# Altium integrated library Renesas Microprocessor SuperH.IntLib: 433 symbols (part 31 of 62)
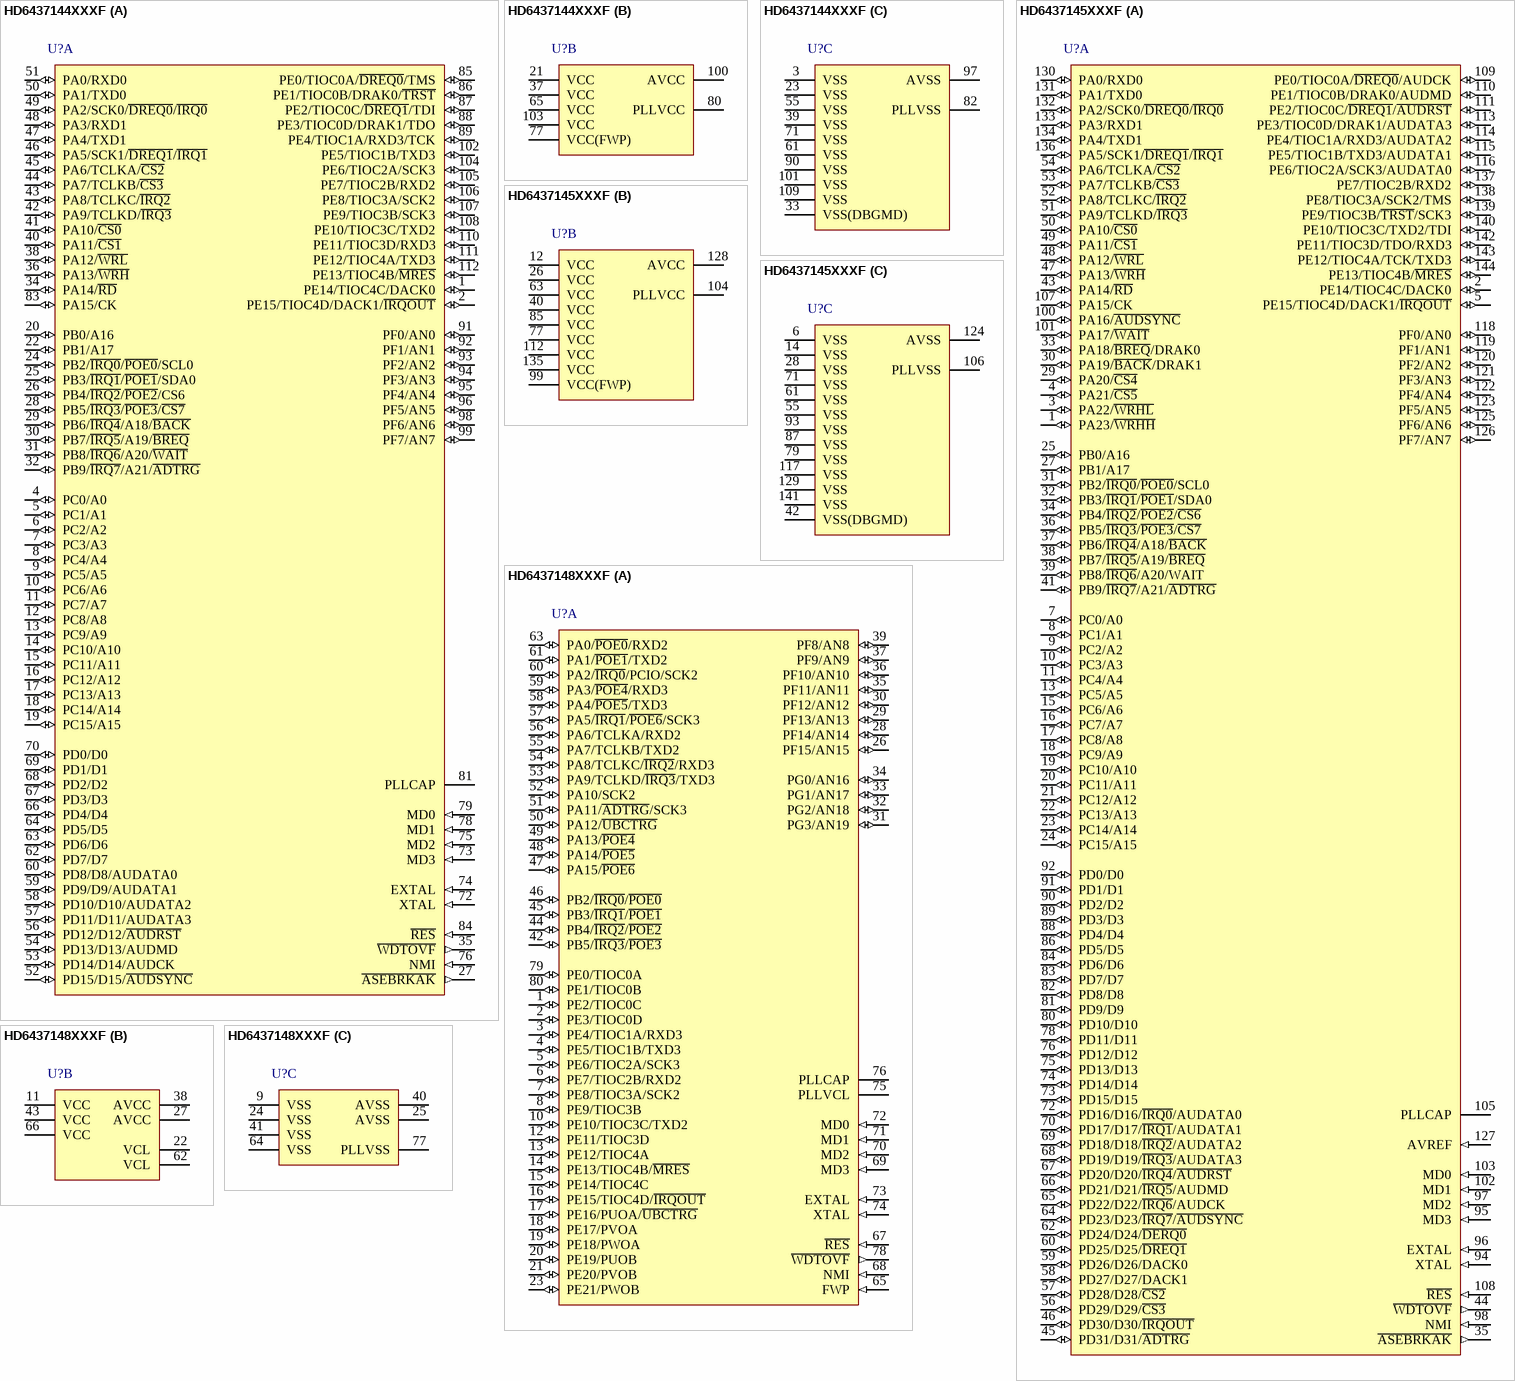
[diagram p301: symbols HD6437144XXXF to HD6437148XXXF]

## HD6437144XXXF
designator U?
32-Bit RISC Microcomputer, SH7144 Series, SH-2 core, 50MHz, 256K ROM, 8K RAM, PRQP0112JB-A (FP-112B) Package, -20 to 75/-40 to 85°C; Published: 28-Aug-2009; DatasheetVersion: Rev.4.00, Mar-2008; PackageVersion: Sep-2005; PackageReference: PRQP0112JB-A; Publisher: Altium Limited; PackageDescription: 112-Pin Plastic Quad Flat Pack, 20 x 20 x 2.7 mm Body, 0.65 mm Pitch; Code_JEITA: P-QFP112-20x20-0.65; ComponentLink1Description: Manufacturer Link; ComponentLink1URL: http://www.renesas.com/fmwk.jsp?cnt=sh7144_root.jsp&fp=/products/mpumcu/superh_family/sh7144_series/sh7144_group/; ComponentLink2Description: Datasheet; ComponentLink2URL: http://documentation.renesas.com/eng/products/mpumcu/rej09b0108_sh7144.pdf; ComponentLink3Description: Packaging Specification; ComponentLink3URL: http://sg.renesas.com/media/products/common_info/package/pdf/ic/code/prqp0112jb_a.pdf
footprint PRQP0112JB-A_N (QFP, 112-Leads, Body 20x20mm, Pitch 0.65mm, IPC Medium Density)
footprint PRQP0112JB-A_L (QFP, 112-Leads, Body 20x20mm, Pitch 0.65mm, IPC High Density)
footprint PRQP0112JB-A_M (QFP, 112-Leads, Body 20x20mm, Pitch 0.65mm, IPC Low Density)
part A pins: 1 PE14/TIOC4C/DACK0 (io), 2 PE15/TIOC4D/DACK1/~{IRQOUT} (io), 4 PC0/A0 (io), 5 PC1/A1 (io), 6 PC2/A2 (io), 7 PC3/A3 (io), 8 PC4/A4 (io), 9 PC5/A5 (io), 10 PC6/A6 (io), 11 PC7/A7 (io), 12 PC8/A8 (io), 13 PC9/A9 (io), 14 PC10/A10 (io), 15 PC11/A11 (io), 16 PC12/A12 (io), 17 PC13/A13 (io), 18 PC14/A14 (io), 19 PC15/A15 (io), 20 PB0/A16 (io), 22 PB1/A17 (io), 24 PB2/~{IRQ0}/~{POE0}/SCL0 (io), 25 PB3/~{IRQ1}/~{POE1}/SDA0 (io), 26 PB4/~{IRQ2}/~{POE2}/CS6 (io), 27 ~{ASEBRKAK} (out), 28 PB5/~{IRQ3}/~{POE3}/~{CS7} (io), 29 PB6/~{IRQ4}/A18/~{BACK} (io), 30 PB7/~{IRQ5}/A19/~{BREQ} (io), 31 PB8/~{IRQ6}/A20/~{WAIT} (io), 32 PB9/~{IRQ7}/A21/~{ADTRG} (io), 34 PA14/~{RD} (io), 35 ~{WDTOVF} (out), 36 PA13/~{WRH} (io), 38 PA12/~{WRL} (io), 40 PA11/~{CS1} (io), 41 PA10/~{CS0} (io), 42 PA9/TCLKD/~{IRQ3} (io), 43 PA8/TCLKC/~{IRQ2} (io), 44 PA7/TCLKB/~{CS3} (io), 45 PA6/TCLKA/~{CS2} (io), 46 PA5/SCK1/~{DREQ1}/~{IRQ1} (io), 47 PA4/TXD1 (io), 48 PA3/RXD1 (io), 49 PA2/SCK0/~{DREQ0}/~{IRQ0} (io), 50 PA1/TXD0 (io), 51 PA0/RXD0 (io), 52 PD15/D15/~{AUDSYNC} (io), 53 PD14/D14/AUDCK (io), 54 PD13/D13/AUDMD (io), 56 PD12/D12/~{AUDRST} (io), 57 PD11/D11/AUDATA3 (io), 58 PD10/D10/AUDATA2 (io), 59 PD9/D9/AUDATA1 (io), 60 PD8/D8/AUDATA0 (io), 62 PD7/D7 (io), 63 PD6/D6 (io), 64 PD5/D5 (io), 66 PD4/D4 (io), 67 PD3/D3 (io), 68 PD2/D2 (io), 69 PD1/D1 (io), 70 PD0/D0 (io), 72 XTAL (in), 73 MD3 (in), 74 EXTAL (in), 75 MD2 (in), 76 NMI (in), 78 MD1 (in), 79 MD0 (in), 81 PLLCAP, 83 PA15/CK (io), 84 ~{RES} (in), 85 PE0/TIOC0A/~{DREQ0}/TMS (io), 86 PE1/TIOC0B/DRAK0/~{TRST} (io), 87 PE2/TIOC0C/~{DREQ1}/TDI (io), 88 PE3/TIOC0D/DRAK1/TDO (io), 89 PE4/TIOC1A/RXD3/TCK (io), 91 PF0/AN0 (io), 92 PF1/AN1 (io), 93 PF2/AN2 (io), 94 PF3/AN3 (io), 95 PF4/AN4 (io), 96 PF5/AN5 (io), 98 PF6/AN6 (io), 99 PF7/AN7 (io), 102 PE5/TIOC1B/TXD3 (io), 104 PE6/TIOC2A/SCK3 (io), 105 PE7/TIOC2B/RXD2 (io), 106 PE8/TIOC3A/SCK2 (io), 107 PE9/TIOC3B/SCK3 (io), 108 PE10/TIOC3C/TXD2 (io), 110 PE11/TIOC3D/RXD3 (io), 111 PE12/TIOC4A/TXD3 (io), 112 PE13/TIOC4B/~{MRES} (io)
part B pins: 21 VCC (power), 37 VCC (power), 65 VCC (power), 77 VCC(FWP) (power), 80 PLLVCC (power), 100 AVCC (power), 103 VCC (power)
part C pins: 3 VSS (power), 23 VSS (power), 33 VSS(DBGMD) (power), 39 VSS (power), 55 VSS (power), 61 VSS (power), 71 VSS (power), 82 PLLVSS (power), 90 VSS (power), 97 AVSS (power), 101 VSS (power), 109 VSS (power)

## HD6437145XXXF
designator U?
32-Bit RISC Microcomputer, SH7144 Series, SH-2 core, 50MHz, 256K ROM, 8K RAM, PLQP0144KB-A (FP-144F) Package, -20 to 75/-40 to 85°C; Published: 28-Aug-2009; DatasheetVersion: Rev.4.00, Mar-2008; PackageVersion: Sep-2005; PackageReference: PLQP0144KB-A; Publisher: Altium Limited; PackageDescription: 144-Pin Plastic Low Profile QFP, 20 x 20 x 1.4 mm Body, 0.5 mm Pitch; Code_JEITA: P-LQFP144-20x20-0.50; Code_IPC: SQFP50P2200X2200-144; ComponentLink1Description: Manufacturer Link; ComponentLink1URL: http://www.renesas.com/fmwk.jsp?cnt=sh7144_root.jsp&fp=/products/mpumcu/superh_family/sh7144_series/sh7144_group/; ComponentLink2Description: Datasheet; ComponentLink2URL: http://documentation.renesas.com/eng/products/mpumcu/rej09b0108_sh7144.pdf; ComponentLink3Description: Packaging Specification; ComponentLink3URL: http://sg.renesas.com/media/products/common_info/package/pdf/ic/code/plqp0144kb_a.pdf
footprint PLQP0144KB-A_N (Shrink QFP, 144-Leads, Body 20x20mm, Pitch 0.5mm, IPC Medium Density)
footprint PLQP0144KB-A_L (Shrink QFP, 144-Leads, Body 20x20mm, Pitch 0.5mm, IPC High Density)
footprint PLQP0144KB-A_M (Shrink QFP, 144-Leads, Body 20x20mm, Pitch 0.5mm, IPC Low Density)
part A pins: 1 PA23/~{WRHH} (io), 2 PE14/TIOC4C/DACK0 (io), 3 PA22/~{WRHL} (io), 4 PA21/~{CS5} (io), 5 PE15/TIOC4D/DACK1/~{IRQOUT} (io), 7 PC0/A0 (io), 8 PC1/A1 (io), 9 PC2/A2 (io), 10 PC3/A3 (io), 11 PC4/A4 (io), 13 PC5/A5 (io), 15 PC6/A6 (io), 16 PC7/A7 (io), 17 PC8/A8 (io), 18 PC9/A9 (io), 19 PC10/A10 (io), 20 PC11/A11 (io), 21 PC12/A12 (io), 22 PC13/A13 (io), 23 PC14/A14 (io), 24 PC15/A15 (io), 25 PB0/A16 (io), 27 PB1/A17 (io), 29 PA20/~{CS4} (io), 30 PA19/~{BACK}/DRAK1 (io), 31 PB2/~{IRQ0}/~{POE0}/SCL0 (io), 32 PB3/~{IRQ1}/~{POE1}/SDA0 (io), 33 PA18/~{BREQ}/DRAK0 (io), 34 PB4/~{IRQ2}/~{POE2}/~{CS6} (io), 35 ~{ASEBRKAK} (out), 36 PB5/~{IRQ3}/~{POE3}/~{CS7} (io), 37 PB6/~{IRQ4}/A18/~{BACK} (io), 38 PB7/~{IRQ5}/A19/~{BREQ} (io), 39 PB8/~{IRQ6}/A20/WAIT (io), 41 PB9/~{IRQ7}/A21/~{ADTRG} (io), 43 PA14/~{RD} (io), 44 ~{WDTOVF} (out), 45 PD31/D31/~{ADTRG} (io), 46 PD30/D30/~{IRQOUT} (io), 47 PA13/~{WRH} (io), 48 PA12/~{WRL} (io), 49 PA11/~{CS1} (io), 50 PA10/~{CS0} (io), 51 PA9/TCLKD/~{IRQ3} (io), 52 PA8/TCLKC/~{IRQ2} (io), 53 PA7/TCLKB/~{CS3} (io), 54 PA6/TCLKA/~{CS2} (io), 56 PD29/D29/~{CS3} (io), 57 PD28/D28/~{CS2} (io), 58 PD27/D27/DACK1 (io), 59 PD26/D26/DACK0 (io), 60 PD25/D25/~{DREQ1} (io), 62 PD24/D24/~{DERQ0} (io), 64 PD23/D23/~{IRQ7}/~{AUDSYNC} (io), 65 PD22/D22/~{IRQ6}/AUDCK (io), 66 PD21/D21/~{IRQ5}/AUDMD (io), 67 PD20/D20/~{IRQ4}/~{AUDRST} (io), 68 PD19/D19/~{IRQ3}/AUDATA3 (io), 69 PD18/D18/~{IRQ2}/AUDATA2 (io), 70 PD17/D17/~{IRQ1}/AUDATA1 (io), 72 PD16/D16/~{IRQ0}/AUDATA0 (io), 73 PD15/D15 (io), 74 PD14/D14 (io), 75 PD13/D13 (io), 76 PD12/D12 (io), 78 PD11/D11 (io), 80 PD10/D10 (io), 81 PD9/D9 (io), 82 PD8/D8 (io), 83 PD7/D7 (io), 84 PD6/D6 (io), 86 PD5/D5 (io), 88 PD4/D4 (io), 89 PD3/D3 (io), 90 PD2/D2 (io), 91 PD1/D1 (io), 92 PD0/D0 (io), 94 XTAL (in), 95 MD3 (in), 96 EXTAL (in), 97 MD2 (in), 98 NMI (in), 100 PA16/~{AUDSYNC} (io), 101 PA17/~{WAIT} (io), 102 MD1 (in), 103 MD0 (in), 105 PLLCAP, 107 PA15/CK (io), 108 ~{RES} (in), 109 PE0/TIOC0A/~{DREQ0}/AUDCK (io), 110 PE1/TIOC0B/DRAK0/AUDMD (io), 111 PE2/TIOC0C/~{DREQ1}/~{AUDRST} (io), 113 PE3/TIOC0D/DRAK1/AUDATA3 (io), 114 PE4/TIOC1A/RXD3/AUDATA2 (io), 115 PE5/TIOC1B/TXD3/AUDATA1 (io), 116 PE6/TIOC2A/SCK3/AUDATA0 (io), 118 PF0/AN0 (io), 119 PF1/AN1 (io), 120 PF2/AN2 (io), 121 PF3/AN3 (io), 122 PF4/AN4 (io), 123 PF5/AN5 (io), 125 PF6/AN6 (io), 126 PF7/AN7 (io), 127 AVREF (in), 130 PA0/RXD0 (io), 131 PA1/TXD0 (io), 132 PA2/SCK0/~{DREQ0}/~{IRQ0} (io), 133 PA3/RXD1 (io), 134 PA4/TXD1 (io), 136 PA5/SCK1/~{DREQ1}/~{IRQ1} (io), 137 PE7/TIOC2B/RXD2 (io), 138 PE8/TIOC3A/SCK2/TMS (io), 139 PE9/TIOC3B/~{TRST}/SCK3 (io), 140 PE10/TIOC3C/TXD2/TDI (io), 142 PE11/TIOC3D/TDO/RXD3 (io), 143 PE12/TIOC4A/TCK/TXD3 (io), 144 PE13/TIOC4B/~{MRES} (io)
part B pins: 12 VCC (power), 26 VCC (power), 40 VCC (power), 63 VCC (power), 77 VCC (power), 85 VCC (power), 99 VCC(FWP) (power), 104 PLLVCC (power), 112 VCC (power), 128 AVCC (power), 135 VCC (power)
part C pins: 6 VSS (power), 14 VSS (power), 28 VSS (power), 42 VSS(DBGMD) (power), 55 VSS (power), 61 VSS (power), 71 VSS (power), 79 VSS (power), 87 VSS (power), 93 VSS (power), 106 PLLVSS (power), 117 VSS (power), 124 AVSS (power), 129 VSS (power), 141 VSS (power)

## HD6437148XXXF
designator U?
32-Bit RISC Microcomputer, SH7046 Series, SH-2 core, 50MHz, 64K ROM, 4K RAM, PRQP0080JD-A (FP-80Q) Package; Published: 28-Aug-2009; DatasheetVersion: Rev.4.00, Dec-2005; PackageVersion: Sep-2005; PackageReference: PRQP0080JD-A; Publisher: Altium Limited; PackageDescription: 80-Pin Plastic Quad Flat Pack, 14 x 14 x 2.7 mm Body, 0.65 mm Pitch; Code_JEITA: P-QFP80-14x14-0.65; Code_IPC: QFP65P1720X1720-80; ComponentLink1Description: Manufacturer Link; ComponentLink1URL: http://www.renesas.com/fmwk.jsp?cnt=sh7046_root.jsp&fp=/products/mpumcu/superh_family/sh7046_series/sh7046_group/; ComponentLink2Description: Datasheet; ComponentLink2URL: http://documentation.renesas.com/eng/products/mpumcu/rej09b0270_7046.pdf; ComponentLink3Description: Packaging Specification; ComponentLink3URL: http://sg.renesas.com/media/products/common_info/package/pdf/ic/code/prqp0080jd_a.pdf
footprint PRQP0080JD-A_N (QFP, 80-Leads, Body 14x14mm, Pitch 0.65mm, IPC Medium Density)
footprint PRQP0080JD-A_L (QFP, 80-Leads, Body 14x14mm, Pitch 0.65mm, IPC High Density)
footprint PRQP0080JD-A_M (QFP, 80-Leads, Body 14x14mm, Pitch 0.65mm, IPC Low Density)
part A pins: 1 PE2/TIOC0C (io), 2 PE3/TIOC0D (io), 3 PE4/TIOC1A/RXD3 (io), 4 PE5/TIOC1B/TXD3 (io), 5 PE6/TIOC2A/SCK3 (io), 6 PE7/TIOC2B/RXD2 (io), 7 PE8/TIOC3A/SCK2 (io), 8 PE9/TIOC3B (io), 10 PE10/TIOC3C/TXD2 (io), 12 PE11/TIOC3D (io), 13 PE12/TIOC4A (io), 14 PE13/TIOC4B/~{MRES} (io), 15 PE14/TIOC4C (io), 16 PE15/TIOC4D/~{IRQOUT} (io), 17 PE16/PUOA/~{UBCTRG} (io), 18 PE17/PVOA (io), 19 PE18/PWOA (io), 20 PE19/PUOB (io), 21 PE20/PVOB (io), 23 PE21/PWOB (io), 26 PF15/AN15 (io), 28 PF14/AN14 (io), 29 PF13/AN13 (io), 30 PF12/AN12 (io), 31 PG3/AN19 (io), 32 PG2/AN18 (io), 33 PG1/AN17 (io), 34 PG0/AN16 (io), 35 PF11/AN11 (io), 36 PF10/AN10 (io), 37 PF9/AN9 (io), 39 PF8/AN8 (io), 42 PB5/~{IRQ3}/~{POE3} (io), 44 PB4/~{IRQ2}/~{POE2} (io), 45 PB3/~{IRQ1}/~{POE1} (io), 46 PB2/~{IRQ0}/~{POE0} (io), 47 PA15/~{POE6} (io), 48 PA14/~{POE5} (io), 49 PA13/~{POE4} (io), 50 PA12/~{UBCTRG} (io), 51 PA11/~{ADTRG}/SCK3 (io), 52 PA10/SCK2 (io), 53 PA9/TCLKD/~{IRQ3}/TXD3 (io), 54 PA8/TCLKC/~{IRQ2}/RXD3 (io), 55 PA7/TCLKB/TXD2 (io), 56 PA6/TCLKA/RXD2 (io), 57 PA5/~{IRQ1}/~{POE6}/SCK3 (io), 58 PA4/~{POE5}/TXD3 (io), 59 PA3/~{POE4}/RXD3 (io), 60 PA2/~{IRQ0}/PCIO/SCK2 (io), 61 PA1/~{POE1}/TXD2 (io), 63 PA0/~{POE0}/RXD2 (io), 65 FWP (in), 67 ~{RES} (in), 68 NMI (in), 69 MD3 (in), 70 MD2 (in), 71 MD1 (in), 72 MD0 (in), 73 EXTAL (in), 74 XTAL (in), 75 PLLVCL, 76 PLLCAP, 78 ~{WDTOVF} (out), 79 PE0/TIOC0A (io), 80 PE1/TIOC0B (io)
part B pins: 11 VCC (power), 22 VCL, 27 AVCC (power), 38 AVCC (power), 43 VCC (power), 62 VCL, 66 VCC (power)
part C pins: 9 VSS (power), 24 VSS (power), 25 AVSS (power), 40 AVSS (power), 41 VSS (power), 64 VSS (power), 77 PLLVSS (power)

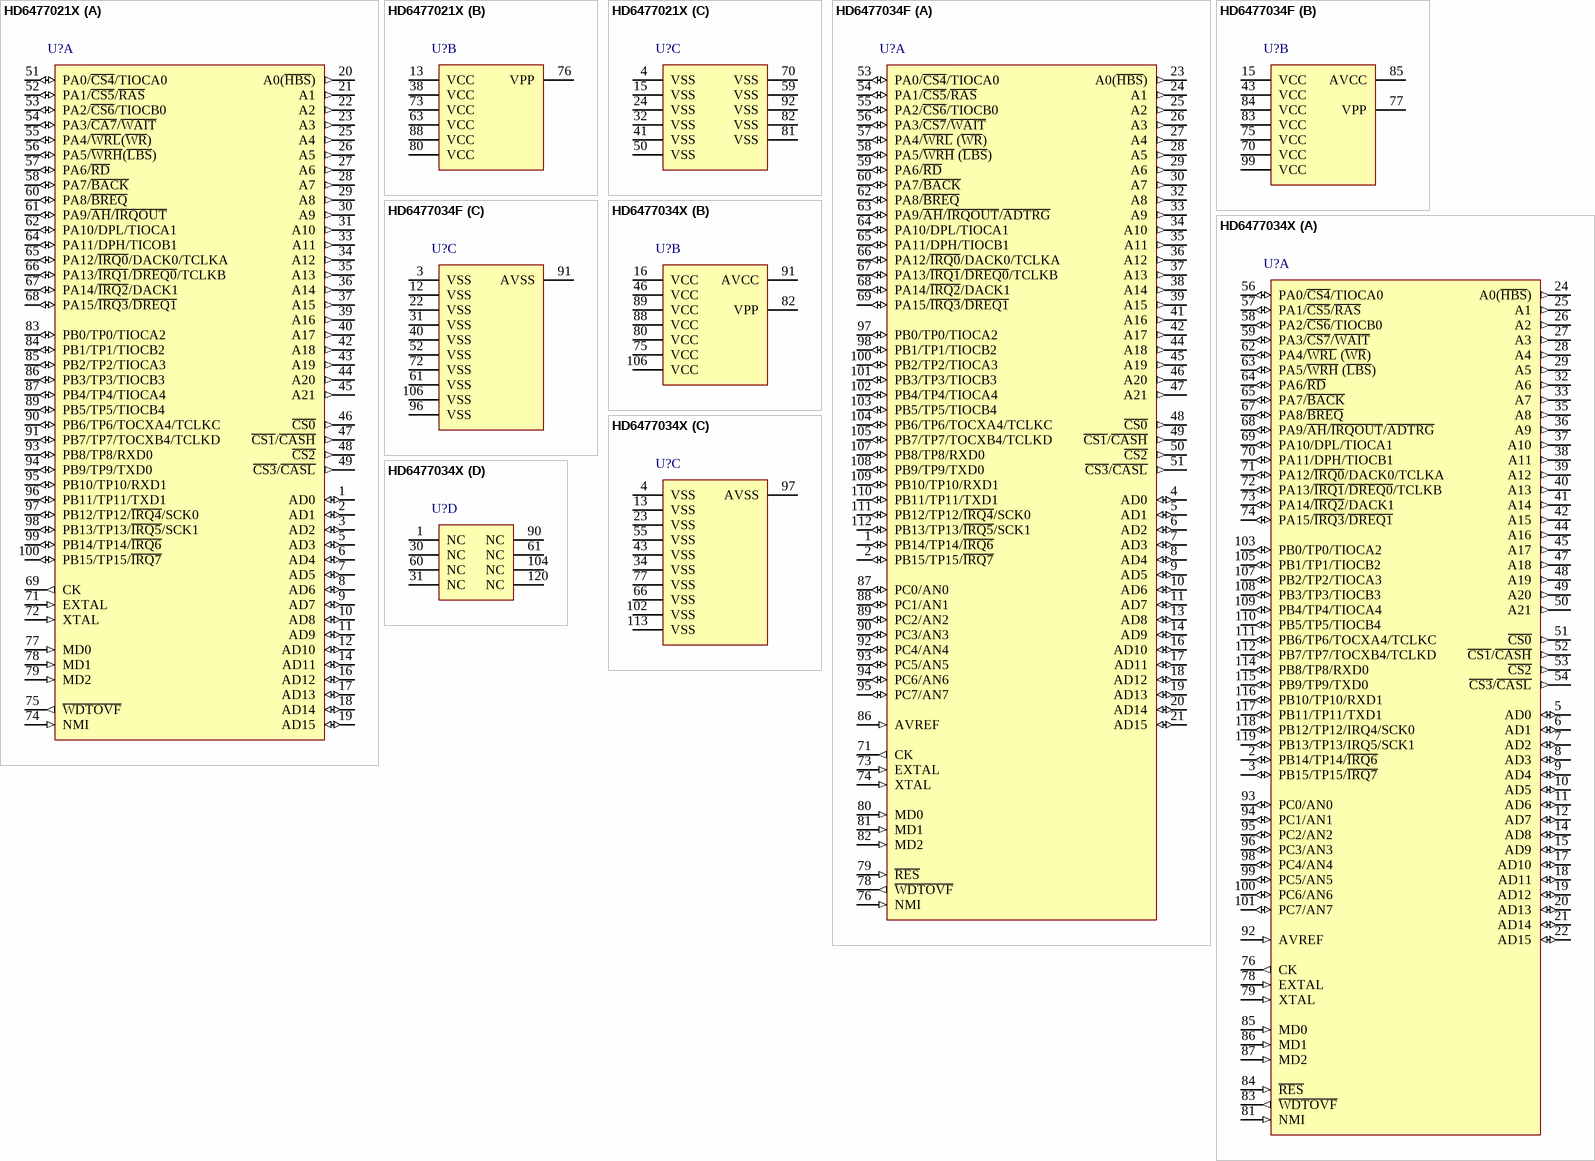
[diagram p112: symbols HD6477021X to HD6477034X]

## HD6477021X
designator U?
32-Bit RISC Microcomputer, SH7020 Series, SH-1 core, 20MHz, 32K ROM, 1K RAM, PTQP0100KA-A (TFP-100B) Package; Published: 28-Aug-2009; DatasheetVersion: Rev.3.0, Apr-2003; PackageVersion: Sep-2005; PackageReference: PTQP0100KA-A; Publisher: Altium Limited; PackageDescription: 100-Pin Plastic Thin Quad Flat Pack, 14 x 14 x 1.0 mm Body, 0.5 mm Pitch; Code_JEITA: P-TQFP100-14x14-0.50; ComponentLink1Description: Manufacturer Link; ComponentLink1URL: http://www.renesas.com/fmwk.jsp?cnt=sh7020_root.jsp&fp=/products/mpumcu/superh_family/sh7020_series/sh7020_group/; ComponentLink2Description: Datasheet; ComponentLink2URL: http://documentation.renesas.com/eng/products/mpumcu/e602074_sh7020.pdf; ComponentLink3Description: Packaging Specification; ComponentLink3URL: http://sg.renesas.com/media/products/common_info/package/pdf/ic/code/ptqp0100ka_a.pdf
footprint PTQP0100KA-A_N (Thin QFP, 100-Leads, Body 14x14mm, Pitch 0.5mm, IPC Medium Density)
footprint PTQP0100KA-A_L (Thin QFP, 100-Leads, Body 14x14mm, Pitch 0.5mm, IPC High Density)
footprint PTQP0100KA-A_M (Thin QFP, 100-Leads, Body 14x14mm, Pitch 0.5mm, IPC Low Density)
part A pins: 1 AD0 (io), 2 AD1 (io), 3 AD2 (io), 5 AD3 (io), 6 AD4 (io), 7 AD5 (io), 8 AD6 (io), 9 AD7 (io), 10 AD8 (io), 11 AD9 (io), 12 AD10 (io), 14 AD11 (io), 16 AD12 (io), 17 AD13 (io), 18 AD14 (io), 19 AD15 (io), 20 A0(~{HBS}) (out), 21 A1 (out), 22 A2 (out), 23 A3 (out), 25 A4 (out), 26 A5 (out), 27 A6 (out), 28 A7 (out), 29 A8 (out), 30 A9 (out), 31 A10 (out), 33 A11 (out), 34 A12 (out), 35 A13 (out), 36 A14 (out), 37 A15 (out), 39 A16 (out), 40 A17 (out), 42 A18 (out), 43 A19 (out), 44 A20 (out), 45 A21 (out), 46 ~{CS0} (out), 47 ~{CS1}/~{CASH} (out), 48 ~{CS2} (out), 49 ~{CS3}/~{CASL} (out), 51 PA0/~{CS4}/TIOCA0 (io), 52 PA1/~{CS5}/~{RAS} (io), 53 PA2/~{CS6}/TIOCB0 (io), 54 PA3/~{CA7}/~{WAIT} (io), 55 PA4/~{WRL}(~{WR}) (io), 56 PA5/~{WRH}(~{LBS}) (io), 57 PA6/~{RD} (io), 58 PA7/~{BACK} (io), 60 PA8/~{BREQ} (io), 61 PA9/~{AH}/~{IRQOUT} (io), 62 PA10/DPL/TIOCA1 (io), 64 PA11/DPH/TICOB1 (io), 65 PA12/~{IRQ0}/DACK0/TCLKA (io), 66 PA13/~{IRQ1}/~{DREQ0}/TCLKB (io), 67 PA14/~{IRQ2}/DACK1 (io), 68 PA15/~{IRQ3}/~{DREQ1} (io), 69 CK (out), 71 EXTAL (in), 72 XTAL (in), 74 NMI (in), 75 ~{WDTOVF} (out), 77 MD0 (in), 78 MD1 (in), 79 MD2 (in), 83 PB0/TP0/TIOCA2 (io), 84 PB1/TP1/TIOCB2 (io), 85 PB2/TP2/TIOCA3 (io), 86 PB3/TP3/TIOCB3 (io), 87 PB4/TP4/TIOCA4 (io), 89 PB5/TP5/TIOCB4 (io), 90 PB6/TP6/TOCXA4/TCLKC (io), 91 PB7/TP7/TOCXB4/TCLKD (io), 93 PB8/TP8/RXD0 (io), 94 PB9/TP9/TXD0 (io), 95 PB10/TP10/RXD1 (io), 96 PB11/TP11/TXD1 (io), 97 PB12/TP12/~{IRQ4}/SCK0 (io), 98 PB13/TP13/~{IRQ5}/SCK1 (io), 99 PB14/TP14/~{IRQ6} (io), 100 PB15/TP15/~{IRQ7} (io)
part B pins: 13 VCC (power), 38 VCC (power), 63 VCC (power), 73 VCC (power), 76 VPP (power), 80 VCC (power), 88 VCC (power)
part C pins: 4 VSS (power), 15 VSS (power), 24 VSS (power), 32 VSS (power), 41 VSS (power), 50 VSS (power), 59 VSS (power), 70 VSS (power), 81 VSS (power), 82 VSS (power), 92 VSS (power)

## HD6477034F
designator U?
32-Bit RISC Microcomputer, SH7030 Series, SH-1 core, 20MHz, 64K ROM, 4K RAM, PRQP0112JA-A (FP-112) Package; Published: 28-Aug-2009; DatasheetVersion: Rev.7.00, Jan-2006; PackageVersion: Sep-2005; PackageReference: PRQP0112JA-A; Publisher: Altium Limited; PackageDescription: 112-Pin Plastic Quad Flat Pack, 20 x 20 x 2.7 mm Body, 0.65 mm Pitch; Code_JEITA: P-QFP112-20x20-0.65; ComponentLink1Description: Manufacturer Link; ComponentLink1URL: http://www.renesas.com/fmwk.jsp?cnt=sh7032_root.jsp&fp=/products/mpumcu/superh_family/sh7030_series/sh7032_group/; ComponentLink2Description: Datasheet; ComponentLink2URL: http://documentation.renesas.com/eng/products/mpumcu/rej09b0272_7032hm.pdf; ComponentLink3Description: Packaging Specification; ComponentLink3URL: http://sg.renesas.com/media/products/common_info/package/pdf/ic/code/prqp0112ja_a.pdf
footprint PRQP0112JA-A_N (QFP, 112-Leads, Body 20x20mm, Pitch 0.65mm, IPC Medium Density)
footprint PRQP0112JA-A_L (QFP, 112-Leads, Body 20x20mm, Pitch 0.65mm, IPC High Density)
footprint PRQP0112JA-A_M (QFP, 112-Leads, Body 20x20mm, Pitch 0.65mm, IPC Low Density)
part A pins: 1 PB14/TP14/~{IRQ6} (io), 2 PB15/TP15/~{IRQ7} (io), 4 AD0 (io), 5 AD1 (io), 6 AD2 (io), 7 AD3 (io), 8 AD4 (io), 9 AD5 (io), 10 AD6 (io), 11 AD7 (io), 13 AD8 (io), 14 AD9 (io), 16 AD10 (io), 17 AD11 (io), 18 AD12 (io), 19 AD13 (io), 20 AD14 (io), 21 AD15 (io), 23 A0(~{HBS}) (out), 24 A1 (out), 25 A2 (out), 26 A3 (out), 27 A4 (out), 28 A5 (out), 29 A6 (out), 30 A7 (out), 32 A8 (out), 33 A9 (out), 34 A10 (out), 35 A11 (out), 36 A12 (out), 37 A13 (out), 38 A14 (out), 39 A15 (out), 41 A16 (out), 42 A17 (out), 44 A18 (out), 45 A19 (out), 46 A20 (out), 47 A21 (out), 48 ~{CS0} (out), 49 ~{CS1}/~{CASH} (out), 50 ~{CS2} (out), 51 ~{CS3}/~{CASL} (out), 53 PA0/~{CS4}/TIOCA0 (io), 54 PA1/~{CS5}/~{RAS} (io), 55 PA2/~{CS6}/TIOCB0 (io), 56 PA3/~{CS7}/~{WAIT} (io), 57 PA4/~{WRL} (~{WR}) (io), 58 PA5/~{WRH} (~{LBS}) (io), 59 PA6/~{RD} (io), 60 PA7/~{BACK} (io), 62 PA8/~{BREQ} (io), 63 PA9/~{AH}/~{IRQOUT}/~{ADTRG} (io), 64 PA10/DPL/TIOCA1 (io), 65 PA11/DPH/TIOCB1 (io), 66 PA12/~{IRQ0}/DACK0/TCLKA (io), 67 PA13/~{IRQ1}/~{DREQ0}/TCLKB (io), 68 PA14/~{IRQ2}/DACK1 (io), 69 PA15/~{IRQ3}/~{DREQ1} (io), 71 CK (out), 73 EXTAL (in), 74 XTAL (in), 76 NMI (in), 78 ~{WDTOVF} (out), 79 ~{RES} (in), 80 MD0 (in), 81 MD1 (in), 82 MD2 (in), 86 AVREF (in), 87 PC0/AN0 (io), 88 PC1/AN1 (io), 89 PC2/AN2 (io), 90 PC3/AN3 (io), 92 PC4/AN4 (io), 93 PC5/AN5 (io), 94 PC6/AN6 (io), 95 PC7/AN7 (io), 97 PB0/TP0/TIOCA2 (io), 98 PB1/TP1/TIOCB2 (io), 100 PB2/TP2/TIOCA3 (io), 101 PB3/TP3/TIOCB3 (io), 102 PB4/TP4/TIOCA4 (io), 103 PB5/TP5/TIOCB4 (io), 104 PB6/TP6/TOCXA4/TCLKC (io), 105 PB7/TP7/TOCXB4/TCLKD (io), 107 PB8/TP8/RXD0 (io), 108 PB9/TP9/TXD0 (io), 109 PB10/TP10/RXD1 (io), 110 PB11/TP11/TXD1 (io), 111 PB12/TP12/~{IRQ4}/SCK0 (io), 112 PB13/TP13/~{IRQ5}/SCK1 (io)
part B pins: 15 VCC (power), 43 VCC (power), 70 VCC (power), 75 VCC (power), 77 VPP (power), 83 VCC (power), 84 VCC (power), 85 AVCC (power), 99 VCC (power)
part C pins: 3 VSS (power), 12 VSS (power), 22 VSS (power), 31 VSS (power), 40 VSS (power), 52 VSS (power), 61 VSS (power), 72 VSS (power), 91 AVSS (power), 96 VSS (power), 106 VSS (power)

## HD6477034X
designator U?
32-Bit RISC Microcomputer, SH7030 Series, SH-1 core, 20MHz, 64K ROM, 4K RAM, PTQP0120LA-A (TFP-120) Package; Published: 28-Aug-2009; DatasheetVersion: Rev.7.00, Jan-2006; PackageVersion: Sep-2005; PackageReference: PTQP0120LA-A; Publisher: Altium Limited; PackageDescription: 120-Pin Plastic Thin QFP, 14 x 14 x 1.0 mm Body, 0.4 mm Pitch; Code_JEITA: P-TQFP120-14x14-0.40; ComponentLink1Description: Manufacturer Link; ComponentLink1URL: http://www.renesas.com/fmwk.jsp?cnt=sh7032_root.jsp&fp=/products/mpumcu/superh_family/sh7030_series/sh7032_group/; ComponentLink2Description: Datasheet; ComponentLink2URL: http://documentation.renesas.com/eng/products/mpumcu/rej09b0272_7032hm.pdf; ComponentLink3Description: Packaging Specification; ComponentLink3URL: http://sg.renesas.com/media/products/common_info/package/pdf/ic/code/ptqp0120la_a.pdf
footprint PTQP0120LA-A_N (Thin QFP, 120-Leads, Body 14x14mm, Pitch 0.4mm, IPC Medium Density)
footprint PTQP0120LA-A_L (Thin QFP, 120-Leads, Body 14x14mm, Pitch 0.4mm, IPC High Density)
footprint PTQP0120LA-A_M (Thin QFP, 120-Leads, Body 14x14mm, Pitch 0.4mm, IPC Low Density)
part A pins: 2 PB14/TP14/~{IRQ6} (io), 3 PB15/TP15/~{IRQ7} (io), 5 AD0 (io), 6 AD1 (io), 7 AD2 (io), 8 AD3 (io), 9 AD4 (io), 10 AD5 (io), 11 AD6 (io), 12 AD7 (io), 14 AD8 (io), 15 AD9 (io), 17 AD10 (io), 18 AD11 (io), 19 AD12 (io), 20 AD13 (io), 21 AD14 (io), 22 AD15 (io), 24 A0(~{HBS}) (out), 25 A1 (out), 26 A2 (out), 27 A3 (out), 28 A4 (out), 29 A5 (out), 32 A6 (out), 33 A7 (out), 35 A8 (out), 36 A9 (out), 37 A10 (out), 38 A11 (out), 39 A12 (out), 40 A13 (out), 41 A14 (out), 42 A15 (out), 44 A16 (out), 45 A17 (out), 47 A18 (out), 48 A19 (out), 49 A20 (out), 50 A21 (out), 51 ~{CS0} (out), 52 ~{CS1}/~{CASH} (out), 53 ~{CS2} (out), 54 ~{CS3}/~{CASL} (out), 56 PA0/~{CS4}/TIOCA0 (io), 57 PA1/~{CS5}/~{RAS} (io), 58 PA2/~{CS6}/TIOCB0 (io), 59 PA3/~{CS7}/~{WAIT} (io), 62 PA4/~{WRL} (~{WR}) (io), 63 PA5/~{WRH} (~{LBS}) (io), 64 PA6/~{RD} (io), 65 PA7/~{BACK} (io), 67 PA8/~{BREQ} (io), 68 PA9/~{AH}/~{IRQOUT}/~{ADTRG} (io), 69 PA10/DPL/TIOCA1 (io), 70 PA11/DPH/TIOCB1 (io), 71 PA12/~{IRQ0}/DACK0/TCLKA (io), 72 PA13/~{IRQ1}/~{DREQ0}/TCLKB (io), 73 PA14/~{IRQ2}/DACK1 (io), 74 PA15/~{IRQ3}/~{DREQ1} (io), 76 CK (out), 78 EXTAL (in), 79 XTAL (in), 81 NMI (in), 83 ~{WDTOVF} (out), 84 ~{RES} (in), 85 MD0 (in), 86 MD1 (in), 87 MD2 (in), 92 AVREF (in), 93 PC0/AN0 (io), 94 PC1/AN1 (io), 95 PC2/AN2 (io), 96 PC3/AN3 (io), 98 PC4/AN4 (io), 99 PC5/AN5 (io), 100 PC6/AN6 (io), 101 PC7/AN7 (io), 103 PB0/TP0/TIOCA2 (io), 105 PB1/TP1/TIOCB2 (io), 107 PB2/TP2/TIOCA3 (io), 108 PB3/TP3/TIOCB3 (io), 109 PB4/TP4/TIOCA4 (io), 110 PB5/TP5/TIOCB4 (io), 111 PB6/TP6/TOCXA4/TCLKC (io), 112 PB7/TP7/TOCXB4/TCLKD (io), 114 PB8/TP8/RXD0 (io), 115 PB9/TP9/TXD0 (io), 116 PB10/TP10/RXD1 (io), 117 PB11/TP11/TXD1 (io), 118 PB12/TP12/IRQ4/SCK0 (io), 119 PB13/TP13/IRQ5/SCK1 (io)
part B pins: 16 VCC (power), 46 VCC (power), 75 VCC (power), 80 VCC (power), 82 VPP (power), 88 VCC (power), 89 VCC (power), 91 AVCC (power), 106 VCC (power)
part C pins: 4 VSS (power), 13 VSS (power), 23 VSS (power), 34 VSS (power), 43 VSS (power), 55 VSS (power), 66 VSS (power), 77 VSS (power), 97 AVSS (power), 102 VSS (power), 113 VSS (power)
part D pins: 1 NC, 30 NC, 31 NC, 60 NC, 61 NC, 90 NC, 104 NC, 120 NC

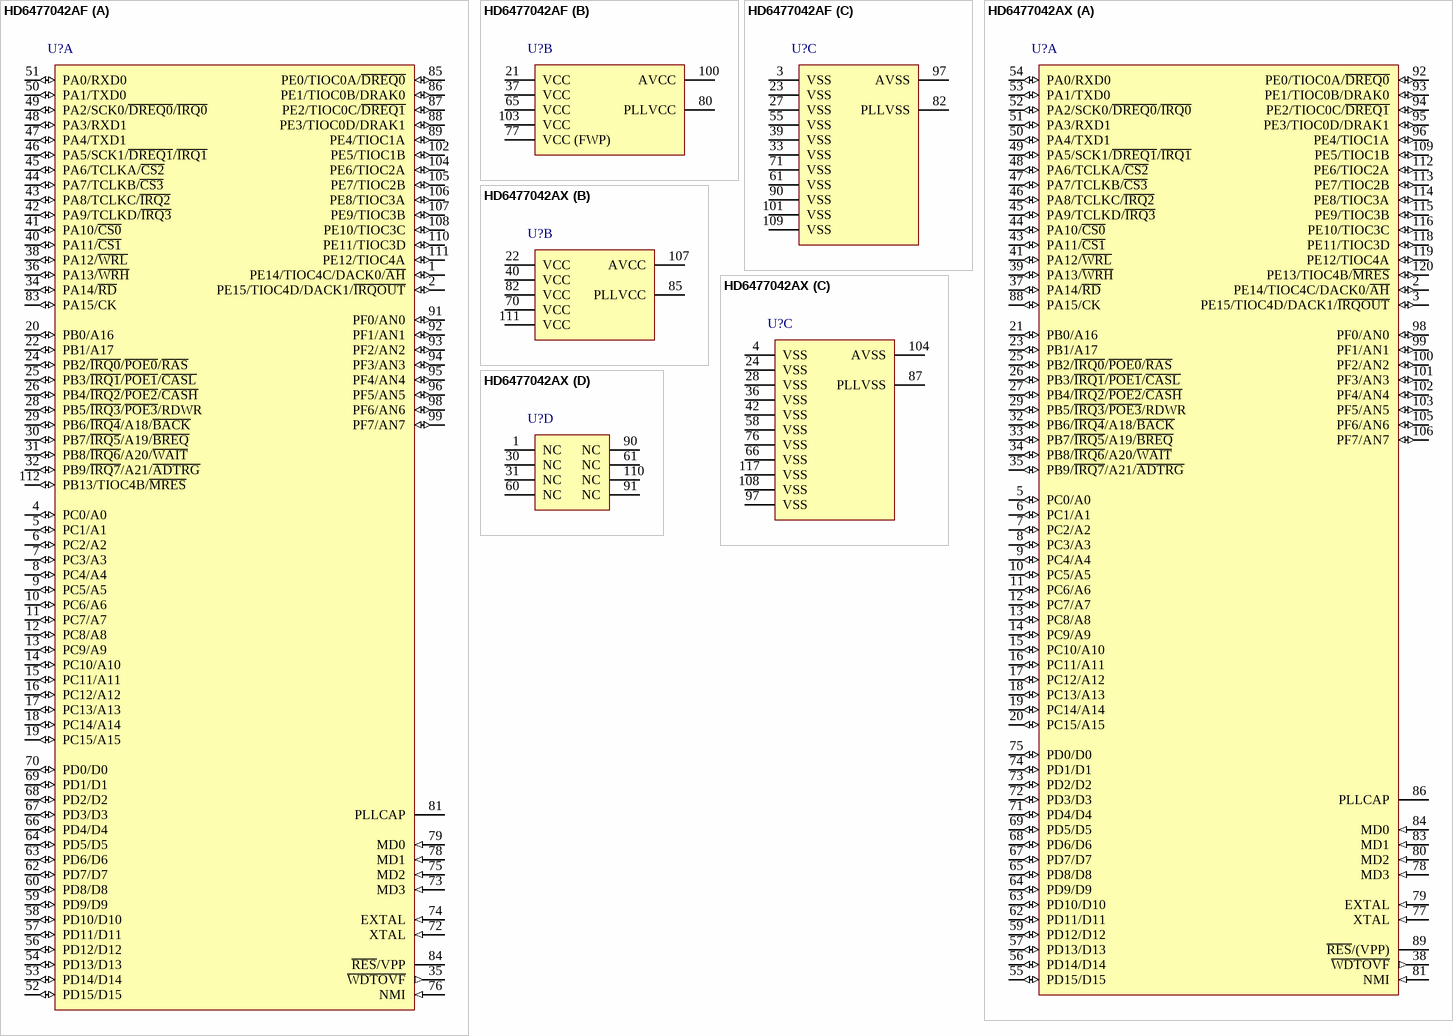
[diagram p113: symbols HD6477042AF to HD6477042AX]

## HD6477042AF
designator U?
32-Bit RISC Microcomputer, SH7040 Series, SH-2 core, 28.7MHz, 128K ROM, 4K(2K) RAM, PRQP0112JA-A (FP-112) Package; Published: 28-Aug-2009; DatasheetVersion: Rev.6.00, May-2003; PackageVersion: Sep-2005; PackageReference: PRQP0112JA-A; Publisher: Altium Limited; PackageDescription: 112-Pin Plastic Quad Flat Pack, 20 x 20 x 2.7 mm Body, 0.65 mm Pitch; Code_JEITA: P-QFP112-20x20-0.65; ComponentLink1Description: Manufacturer Link; ComponentLink1URL: http://www.renesas.com/fmwk.jsp?cnt=sh7040_root.jsp&fp=/products/mpumcu/superh_family/sh7040_series/sh7040_group/; ComponentLink2Description: Datasheet; ComponentLink2URL: http://documentation.renesas.com/eng/products/mpumcu/rej09b0044_sh7040.pdf; ComponentLink3Description: Packaging Specification; ComponentLink3URL: http://sg.renesas.com/media/products/common_info/package/pdf/ic/code/prqp0112ja_a.pdf
footprint PRQP0112JA-A_N (QFP, 112-Leads, Body 20x20mm, Pitch 0.65mm, IPC Medium Density)
footprint PRQP0112JA-A_L (QFP, 112-Leads, Body 20x20mm, Pitch 0.65mm, IPC High Density)
footprint PRQP0112JA-A_M (QFP, 112-Leads, Body 20x20mm, Pitch 0.65mm, IPC Low Density)
part A pins: 1 PE14/TIOC4C/DACK0/~{AH} (io), 2 PE15/TIOC4D/DACK1/~{IRQOUT} (io), 4 PC0/A0 (io), 5 PC1/A1 (io), 6 PC2/A2 (io), 7 PC3/A3 (io), 8 PC4/A4 (io), 9 PC5/A5 (io), 10 PC6/A6 (io), 11 PC7/A7 (io), 12 PC8/A8 (io), 13 PC9/A9 (io), 14 PC10/A10 (io), 15 PC11/A11 (io), 16 PC12/A12 (io), 17 PC13/A13 (io), 18 PC14/A14 (io), 19 PC15/A15 (io), 20 PB0/A16 (io), 22 PB1/A17 (io), 24 PB2/~{IRQ0}/~{POE0}/~{RAS} (io), 25 PB3/~{IRQ1}/~{POE1}/~{CASL} (io), 26 PB4/~{IRQ2}/~{POE2}/~{CASH} (io), 28 PB5/~{IRQ3}/~{POE3}/RDWR (io), 29 PB6/~{IRQ4}/A18/~{BACK} (io), 30 PB7/~{IRQ5}/A19/~{BREQ} (io), 31 PB8/~{IRQ6}/A20/~{WAIT} (io), 32 PB9/~{IRQ7}/A21/~{ADTRG} (io), 34 PA14/~{RD} (io), 35 ~{WDTOVF} (out), 36 PA13/~{WRH} (io), 38 PA12/~{WRL} (io), 40 PA11/~{CS1} (io), 41 PA10/~{CS0} (io), 42 PA9/TCLKD/~{IRQ3} (io), 43 PA8/TCLKC/~{IRQ2} (io), 44 PA7/TCLKB/~{CS3} (io), 45 PA6/TCLKA/~{CS2} (io), 46 PA5/SCK1/~{DREQ1}/~{IRQ1} (io), 47 PA4/TXD1 (io), 48 PA3/RXD1 (io), 49 PA2/SCK0/~{DREQ0}/~{IRQ0} (io), 50 PA1/TXD0 (io), 51 PA0/RXD0 (io), 52 PD15/D15 (io), 53 PD14/D14 (io), 54 PD13/D13 (io), 56 PD12/D12 (io), 57 PD11/D11 (io), 58 PD10/D10 (io), 59 PD9/D9 (io), 60 PD8/D8 (io), 62 PD7/D7 (io), 63 PD6/D6 (io), 64 PD5/D5 (io), 66 PD4/D4 (io), 67 PD3/D3 (io), 68 PD2/D2 (io), 69 PD1/D1 (io), 70 PD0/D0 (io), 72 XTAL (in), 73 MD3 (in), 74 EXTAL (in), 75 MD2 (in), 76 NMI (in), 78 MD1 (in), 79 MD0 (in), 81 PLLCAP, 83 PA15/CK (io), 84 ~{RES}/VPP, 85 PE0/TIOC0A/~{DREQ0} (io), 86 PE1/TIOC0B/DRAK0 (io), 87 PE2/TIOC0C/~{DREQ1} (io), 88 PE3/TIOC0D/DRAK1 (io), 89 PE4/TIOC1A (io), 91 PF0/AN0 (io), 92 PF1/AN1 (io), 93 PF2/AN2 (io), 94 PF3/AN3 (io), 95 PF4/AN4 (io), 96 PF5/AN5 (io), 98 PF6/AN6 (io), 99 PF7/AN7 (io), 102 PE5/TIOC1B (io), 104 PE6/TIOC2A (io), 105 PE7/TIOC2B (io), 106 PE8/TIOC3A (io), 107 PE9/TIOC3B (io), 108 PE10/TIOC3C (io), 110 PE11/TIOC3D (io), 111 PE12/TIOC4A (io), 112 PB13/TIOC4B/~{MRES} (io)
part B pins: 21 VCC (power), 37 VCC (power), 65 VCC (power), 77 VCC (FWP) (power), 80 PLLVCC (power), 100 AVCC (power), 103 VCC (power)
part C pins: 3 VSS (power), 23 VSS (power), 27 VSS (power), 33 VSS (power), 39 VSS (power), 55 VSS (power), 61 VSS (power), 71 VSS (power), 82 PLLVSS (power), 90 VSS (power), 97 AVSS (power), 101 VSS (power), 109 VSS (power)

## HD6477042AX
designator U?
32-Bit RISC Microcomputer, SH7040 Series, SH-2 core, 16MHz, 128K ROM, 4K(2K) RAM, PTQP0120LA-A (TFP-120) Package; Published: 28-Aug-2009; DatasheetVersion: Rev.6.00, May-2003; PackageVersion: Sep-2005; PackageReference: PTQP0120LA-A; Publisher: Altium Limited; PackageDescription: 120-Pin Plastic Thin QFP, 14 x 14 x 1.0 mm Body, 0.4 mm Pitch; Code_JEITA: P-TQFP120-14x14-0.40; ComponentLink1Description: Manufacturer Link; ComponentLink1URL: http://www.renesas.com/fmwk.jsp?cnt=sh7040_root.jsp&fp=/products/mpumcu/superh_family/sh7040_series/sh7040_group/; ComponentLink2Description: Datasheet; ComponentLink2URL: http://documentation.renesas.com/eng/products/mpumcu/rej09b0044_sh7040.pdf; ComponentLink3Description: Packaging Specification; ComponentLink3URL: http://sg.renesas.com/media/products/common_info/package/pdf/ic/code/ptqp0120la_a.pdf
footprint PTQP0120LA-A_N (Thin QFP, 120-Leads, Body 14x14mm, Pitch 0.4mm, IPC Medium Density)
footprint PTQP0120LA-A_L (Thin QFP, 120-Leads, Body 14x14mm, Pitch 0.4mm, IPC High Density)
footprint PTQP0120LA-A_M (Thin QFP, 120-Leads, Body 14x14mm, Pitch 0.4mm, IPC Low Density)
part A pins: 2 PE14/TIOC4C/DACK0/~{AH} (io), 3 PE15/TIOC4D/DACK1/~{IRQOUT} (io), 5 PC0/A0 (io), 6 PC1/A1 (io), 7 PC2/A2 (io), 8 PC3/A3 (io), 9 PC4/A4 (io), 10 PC5/A5 (io), 11 PC6/A6 (io), 12 PC7/A7 (io), 13 PC8/A8 (io), 14 PC9/A9 (io), 15 PC10/A10 (io), 16 PC11/A11 (io), 17 PC12/A12 (io), 18 PC13/A13 (io), 19 PC14/A14 (io), 20 PC15/A15 (io), 21 PB0/A16 (io), 23 PB1/A17 (io), 25 PB2/~{IRQ0}/~{POE0}/~{RAS} (io), 26 PB3/~{IRQ1}/~{POE1}/~{CASL} (io), 27 PB4/~{IRQ2}/~{POE2}/~{CASH} (io), 29 PB5/~{IRQ3}/~{POE3}/RDWR (io), 32 PB6/~{IRQ4}/A18/~{BACK} (io), 33 PB7/~{IRQ5}/A19/~{BREQ} (io), 34 PB8/~{IRQ6}/A20/~{WAIT} (io), 35 PB9/~{IRQ7}/A21/~{ADTRG} (io), 37 PA14/~{RD} (io), 38 ~{WDTOVF} (out), 39 PA13/~{WRH} (io), 41 PA12/~{WRL} (io), 43 PA11/~{CS1} (io), 44 PA10/~{CS0} (io), 45 PA9/TCLKD/~{IRQ3} (io), 46 PA8/TCLKC/~{IRQ2} (io), 47 PA7/TCLKB/~{CS3} (io), 48 PA6/TCLKA/~{CS2} (io), 49 PA5/SCK1/~{DREQ1}/~{IRQ1} (io), 50 PA4/TXD1 (io), 51 PA3/RXD1 (io), 52 PA2/SCK0/~{DREQ0}/~{IRQ0} (io), 53 PA1/TXD0 (io), 54 PA0/RXD0 (io), 55 PD15/D15 (io), 56 PD14/D14 (io), 57 PD13/D13 (io), 59 PD12/D12 (io), 62 PD11/D11 (io), 63 PD10/D10 (io), 64 PD9/D9 (io), 65 PD8/D8 (io), 67 PD7/D7 (io), 68 PD6/D6 (io), 69 PD5/D5 (io), 71 PD4/D4 (io), 72 PD3/D3 (io), 73 PD2/D2 (io), 74 PD1/D1 (io), 75 PD0/D0 (io), 77 XTAL (in), 78 MD3 (in), 79 EXTAL (in), 80 MD2 (in), 81 NMI (in), 83 MD1 (in), 84 MD0 (in), 86 PLLCAP, 88 PA15/CK (io), 89 ~{RES}/(VPP), 92 PE0/TIOC0A/~{DREQ0} (io), 93 PE1/TIOC0B/DRAK0 (io), 94 PE2/TIOC0C/~{DREQ1} (io), 95 PE3/TIOC0D/DRAK1 (io), 96 PE4/TIOC1A (io), 98 PF0/AN0 (io), 99 PF1/AN1 (io), 100 PF2/AN2 (io), 101 PF3/AN3 (io), 102 PF4/AN4 (io), 103 PF5/AN5 (io), 105 PF6/AN6 (io), 106 PF7/AN7 (io), 109 PE5/TIOC1B (io), 112 PE6/TIOC2A (io), 113 PE7/TIOC2B (io), 114 PE8/TIOC3A (io), 115 PE9/TIOC3B (io), 116 PE10/TIOC3C (io), 118 PE11/TIOC3D (io), 119 PE12/TIOC4A (io), 120 PE13/TIOC4B/~{MRES} (io)
part B pins: 22 VCC (power), 40 VCC (power), 70 VCC (power), 82 VCC (power), 85 PLLVCC (power), 107 AVCC (power), 111 VCC (power)
part C pins: 4 VSS (power), 24 VSS (power), 28 VSS (power), 36 VSS (power), 42 VSS (power), 58 VSS (power), 66 VSS (power), 76 VSS (power), 87 PLLVSS (power), 97 VSS (power), 104 AVSS (power), 108 VSS (power), 117 VSS (power)
part D pins: 1 NC, 30 NC, 31 NC, 60 NC, 61 NC, 90 NC, 91 NC, 110 NC

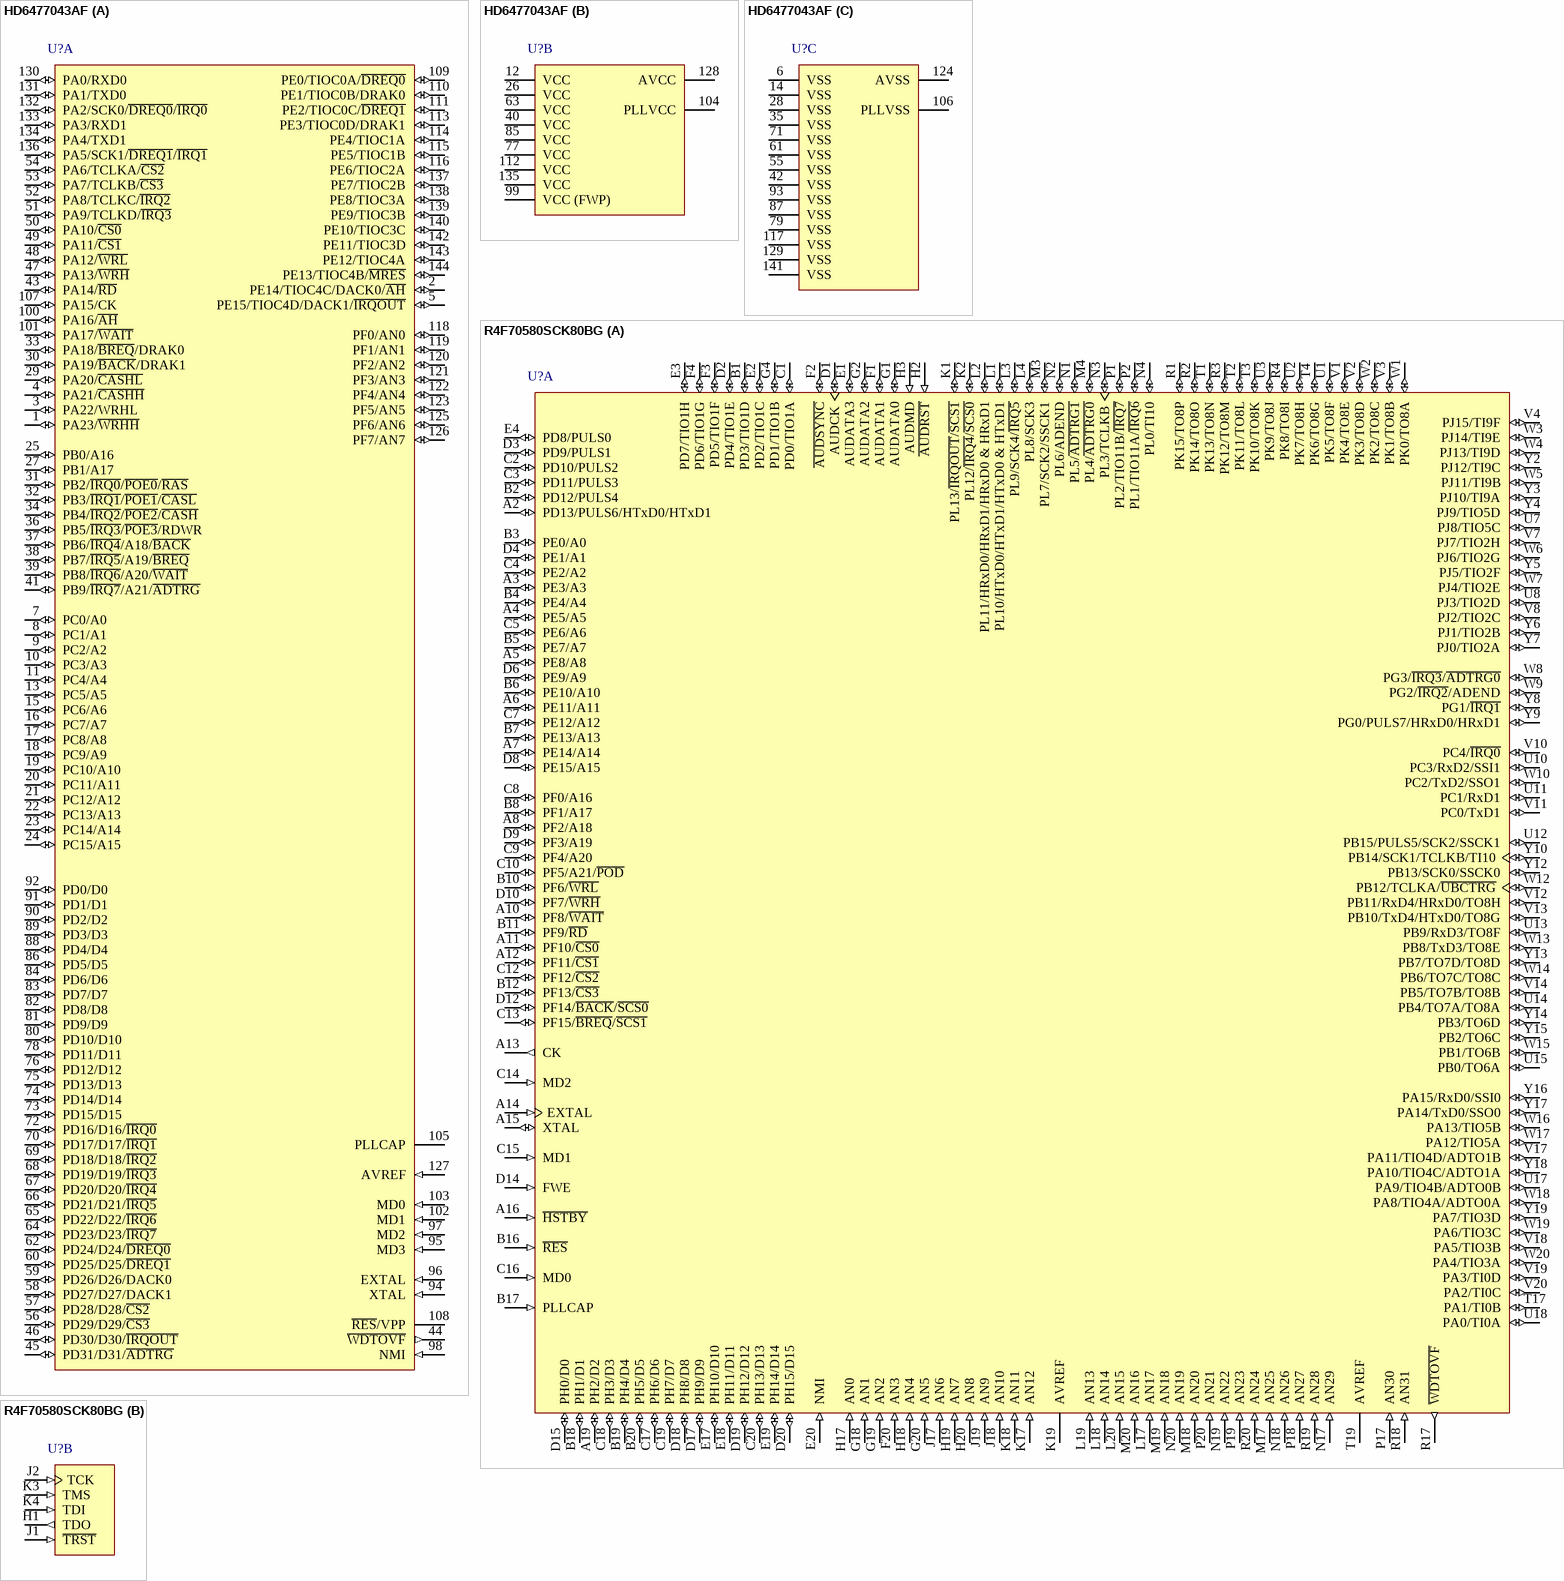
[diagram p114: symbols HD6477043AF to R4F70580SCK80BG]

## HD6477043AF
designator U?
32-Bit RISC Microcomputer, SH7040 Series, SH-2 core, 28.7MHz, 128K ROM, 4K(2K) RAM, FP-144 Package; Published: 28-Aug-2009; DatasheetVersion: Rev.6.00, May-2003; PackageVersion: Sep-2005; PackageReference: PRQP0144KB-A; Publisher: Altium Limited; PackageDescription: 144-Pin Plastic Quad Flat Pack, 20 x 20 x 2.7 mm Body, 0.5 mm Pitch; Code_JEITA: P-QFP144-20x20-0.50; ComponentLink1Description: Manufacturer Link; ComponentLink1URL: http://www.renesas.com/fmwk.jsp?cnt=sh7040_root.jsp&fp=/products/mpumcu/superh_family/sh7040_series/sh7040_group/; ComponentLink2Description: Datasheet; ComponentLink2URL: http://documentation.renesas.com/eng/products/mpumcu/rej09b0044_sh7040.pdf; ComponentLink3Description: Packaging Specification; ComponentLink3URL: http://sg.renesas.com/media/products/common_info/package/pdf/ic/code/prqp0144kb_a.pdf
footprint PRQP0144KB-A_N (Shrink QFP, 144-Leads, Body 20x20mm, Pitch 0.5mm, IPC Medium Density)
footprint PRQP0144KB-A_L (Shrink QFP, 144-Leads, Body 20x20mm, Pitch 0.5mm, IPC High Density)
footprint PRQP0144KB-A_M (Shrink QFP, 144-Leads, Body 20x20mm, Pitch 0.5mm, IPC Low Density)
part A pins: 1 PA23/~{WRHH} (io), 2 PE14/TIOC4C/DACK0/~{AH} (io), 3 PA22/WRHL (io), 4 PA21/~{CASHH} (io), 5 PE15/TIOC4D/DACK1/~{IRQOUT} (io), 7 PC0/A0 (io), 8 PC1/A1 (io), 9 PC2/A2 (io), 10 PC3/A3 (io), 11 PC4/A4 (io), 13 PC5/A5 (io), 15 PC6/A6 (io), 16 PC7/A7 (io), 17 PC8/A8 (io), 18 PC9/A9 (io), 19 PC10/A10 (io), 20 PC11/A11 (io), 21 PC12/A12 (io), 22 PC13/A13 (io), 23 PC14/A14 (io), 24 PC15/A15 (io), 25 PB0/A16 (io), 27 PB1/A17 (io), 29 PA20/~{CASHL} (io), 30 PA19/~{BACK}/DRAK1 (io), 31 PB2/~{IRQ0}/~{POE0}/~{RAS} (io), 32 PB3/~{IRQ1}/~{POE1}/~{CASL} (io), 33 PA18/~{BREQ}/DRAK0 (io), 34 PB4/~{IRQ2}/~{POE2}/~{CASH} (io), 36 PB5/~{IRQ3}/~{POE3}/RDWR (io), 37 PB6/~{IRQ4}/A18/~{BACK} (io), 38 PB7/~{IRQ5}/A19/~{BREQ} (io), 39 PB8/~{IRQ6}/A20/~{WAIT} (io), 41 PB9/~{IRQ7}/A21/~{ADTRG} (io), 43 PA14/~{RD} (io), 44 ~{WDTOVF} (out), 45 PD31/D31/~{ADTRG} (io), 46 PD30/D30/~{IRQOUT} (io), 47 PA13/~{WRH} (io), 48 PA12/~{WRL} (io), 49 PA11/~{CS1} (io), 50 PA10/~{CS0} (io), 51 PA9/TCLKD/~{IRQ3} (io), 52 PA8/TCLKC/~{IRQ2} (io), 53 PA7/TCLKB/~{CS3} (io), 54 PA6/TCLKA/~{CS2} (io), 56 PD29/D29/~{CS3} (io), 57 PD28/D28/~{CS2} (io), 58 PD27/D27/DACK1 (io), 59 PD26/D26/DACK0 (io), 60 PD25/D25/~{DREQ1} (io), 62 PD24/D24/~{DREQ0} (io), 64 PD23/D23/~{IRQ7} (io), 65 PD22/D22/~{IRQ6} (io), 66 PD21/D21/~{IRQ5} (io), 67 PD20/D20/~{IRQ4} (io), 68 PD19/D19/~{IRQ3} (io), 69 PD18/D18/~{IRQ2} (io), 70 PD17/D17/~{IRQ1} (io), 72 PD16/D16/~{IRQ0} (io), 73 PD15/D15 (io), 74 PD14/D14 (io), 75 PD13/D13 (io), 76 PD12/D12 (io), 78 PD11/D11 (io), 80 PD10/D10 (io), 81 PD9/D9 (io), 82 PD8/D8 (io), 83 PD7/D7 (io), 84 PD6/D6 (io), 86 PD5/D5 (io), 88 PD4/D4 (io), 89 PD3/D3 (io), 90 PD2/D2 (io), 91 PD1/D1 (io), 92 PD0/D0 (io), 94 XTAL (in), 95 MD3 (in), 96 EXTAL (in), 97 MD2 (in), 98 NMI (in), 100 PA16/~{AH} (io), 101 PA17/~{WAIT} (io), 102 MD1 (in), 103 MD0 (in), 105 PLLCAP, 107 PA15/CK (io), 108 ~{RES}/VPP, 109 PE0/TIOC0A/~{DREQ0} (io), 110 PE1/TIOC0B/DRAK0 (io), 111 PE2/TIOC0C/~{DREQ1} (io), 113 PE3/TIOC0D/DRAK1 (io), 114 PE4/TIOC1A (io), 115 PE5/TIOC1B (io), 116 PE6/TIOC2A (io), 118 PF0/AN0 (io), 119 PF1/AN1 (io), 120 PF2/AN2 (io), 121 PF3/AN3 (io), 122 PF4/AN4 (io), 123 PF5/AN5 (io), 125 PF6/AN6 (io), 126 PF7/AN7 (io), 127 AVREF (in), 130 PA0/RXD0 (io), 131 PA1/TXD0 (io), 132 PA2/SCK0/~{DREQ0}/~{IRQ0} (io), 133 PA3/RXD1 (io), 134 PA4/TXD1 (io), 136 PA5/SCK1/~{DREQ1}/~{IRQ1} (io), 137 PE7/TIOC2B (io), 138 PE8/TIOC3A (io), 139 PE9/TIOC3B (io), 140 PE10/TIOC3C (io), 142 PE11/TIOC3D (io), 143 PE12/TIOC4A (io), 144 PE13/TIOC4B/~{MRES} (io)
part B pins: 12 VCC (power), 26 VCC (power), 40 VCC (power), 63 VCC (power), 77 VCC (power), 85 VCC (power), 99 VCC (FWP) (power), 104 PLLVCC (power), 112 VCC (power), 128 AVCC (power), 135 VCC (power)
part C pins: 6 VSS (power), 14 VSS (power), 28 VSS (power), 35 VSS (power), 42 VSS (power), 55 VSS (power), 61 VSS (power), 71 VSS (power), 79 VSS (power), 87 VSS (power), 93 VSS (power), 106 PLLVSS (power), 117 VSS (power), 124 AVSS (power), 129 VSS (power), 141 VSS (power)

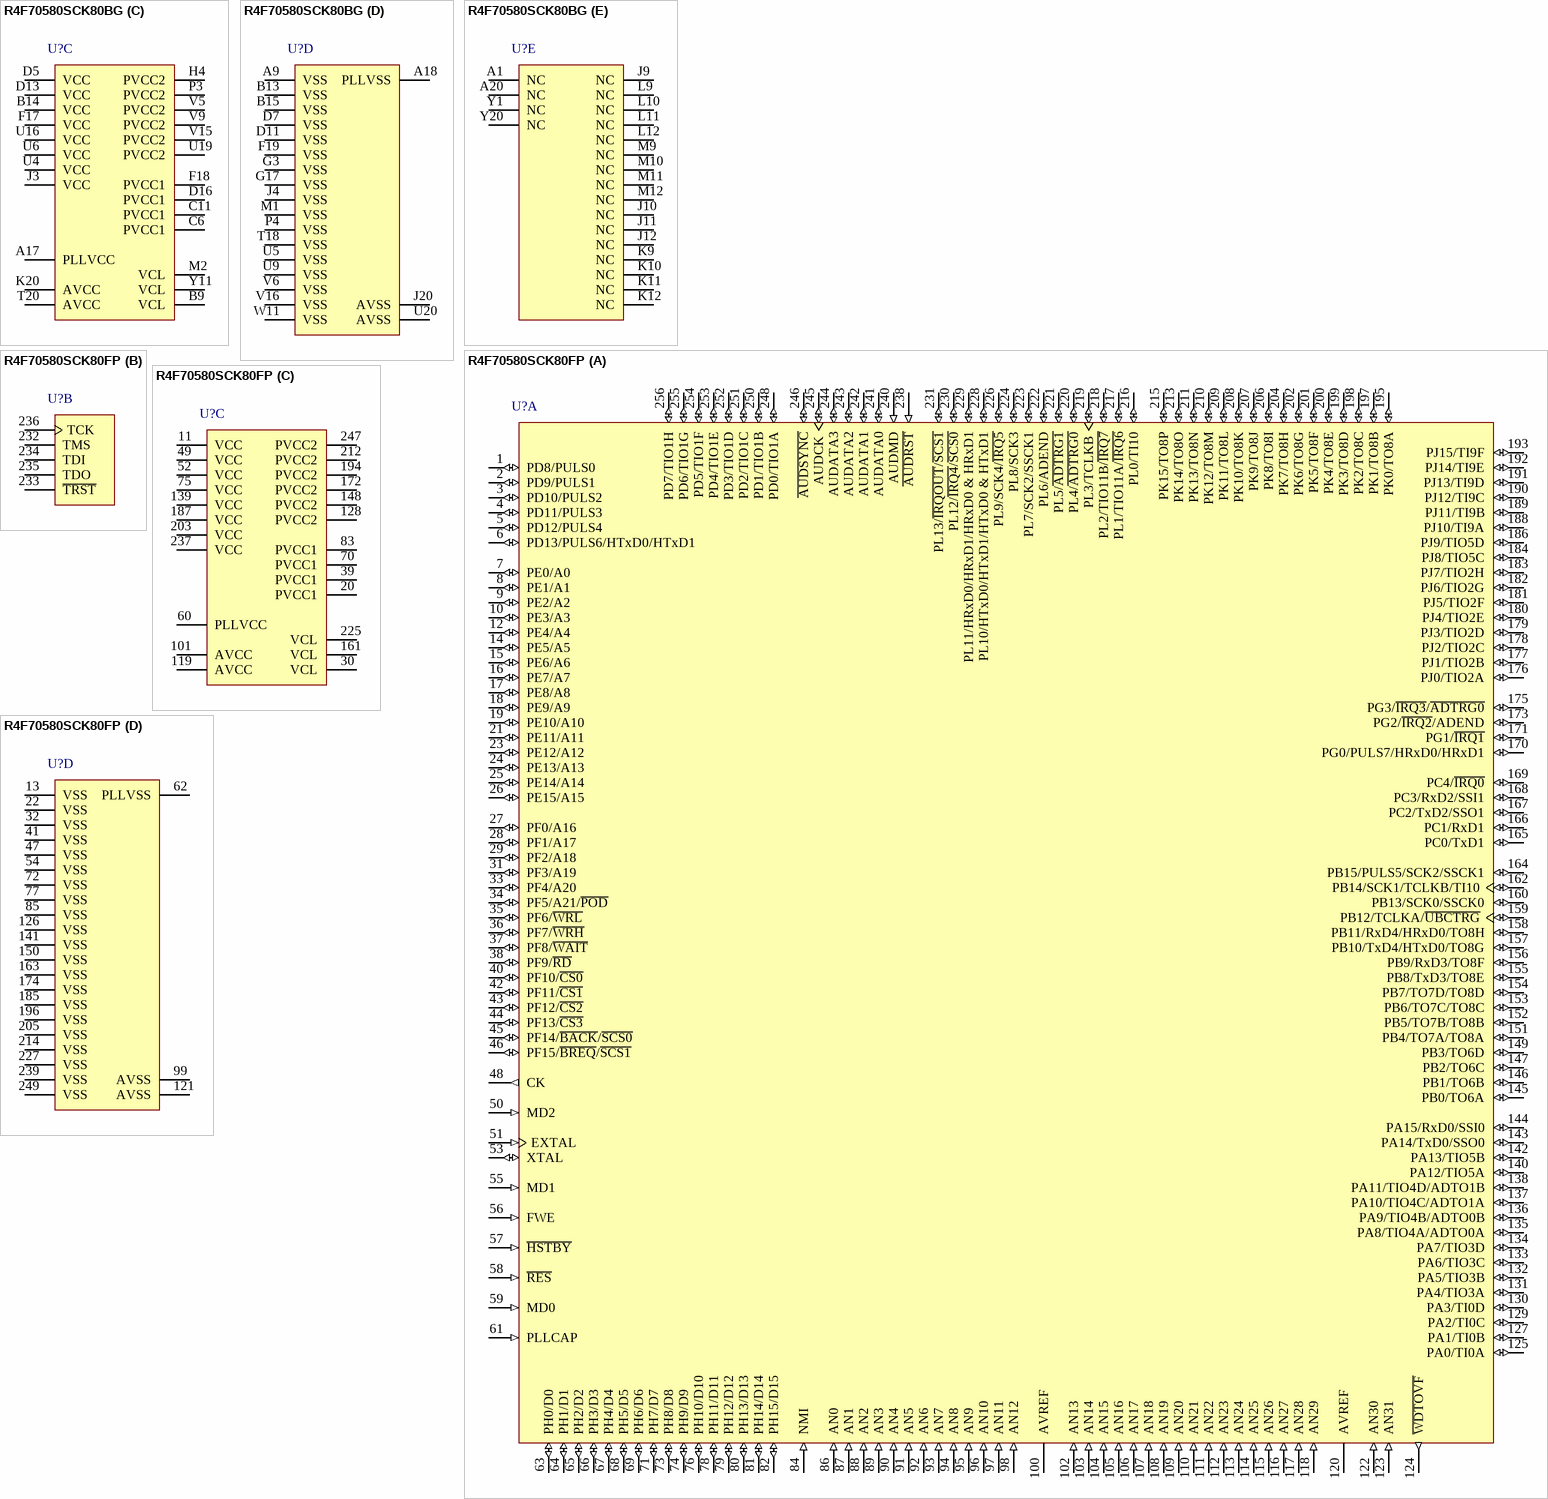
[diagram p115: symbols R4F70580SCK80BG to R4F70580SCK80FP]

## R4F70580SCK80BG
designator U?
32-Bit RISC Microcomputer, SH7050 Series, SH-2E core, 80MHz, 1M ROM, 48K RAM, 272-pin PBGA, -40 to 125°C; Published: 28-Aug-2009; DatasheetVersion: Rev.4.00, Mar-2009; PackageVersion: Aug-2007; PackageReference: PRBG0272FA-A; Publisher: Altium Limited; PackageDescription: 272-Ball Plastic Ball Grid Array, 21 x 21 mm Body, 1 mm Pitch; Code_JEITA: P-BGA272-21x21-1.00; ComponentLink1Description: Manufacturer Link; ComponentLink1URL: http://www.renesas.com/fmwk.jsp?cnt=sh7059_root.jsp&fp=/products/mpumcu/superh_family/sh7050_series/sh7059_group/; ComponentLink2Description: Datasheet; ComponentLink2URL: http://documentation.renesas.com/eng/products/mpumcu/rej09b0177_7059_58fhm.pdf; ComponentLink3Description: Packaging Specification; ComponentLink3URL: http://sg.renesas.com/media/products/common_info/package/pdf/ic/code/prbg0272fa_a.pdf
footprint PRBG0272FA-A (BGA, 272-Leads, Body 21x21mm, Pitch 1mm)
part A pins: A2 PD13/PULS6/HTxD0/HTxD1 (io), A3 PE3/A3 (io), A4 PE5/A5 (io), A5 PE8/A8 (io), A6 PE11/A11 (io), A7 PE14/A14 (io), A8 PF2/A18 (io), A10 PF8/~{WAIT} (io), A11 PF10/~{CS0} (io), A12 PF11/~{CS1} (io), A13 CK (out), A14 EXTAL (in), A15 XTAL (io), A16 ~{HSTBY} (in), A19 PH2/D2 (io), B1 PD3/TIO1D (io), B2 PD12/PULS4 (io), B3 PE0/A0 (io), B4 PE4/A4 (io), B5 PE7/A7 (io), B6 PE10/A10 (io), B7 PE13/A13 (io), B8 PF1/A17 (io), B10 PF6/~{WRL} (io), B11 PF9/~{RD} (io), B12 PF13/~{CS3} (io), B16 ~{RES} (in), B17 PLLCAP (in), B18 PH1/D1 (io), B19 PH4/D4 (io), B20 PH5/D5 (io), C1 PD0/TIO1A (io), C2 PD10/PULS2 (io), C3 PD11/PULS3 (io), C4 PE2/A2 (io), C5 PE6/A6 (io), C7 PE12/A12 (io), C8 PF0/A16 (io), C9 PF4/A20 (io), C10 PF5/A21/~{POD} (io), C12 PF12/~{CS2} (io), C13 PF15/~{BREQ}/~{SCS1} (io), C14 MD2 (in), C15 MD1 (in), C16 MD0 (in), C17 PH6/D6 (io), C18 PH3/D3 (io), C19 PH7/D7 (io), C20 PH13/D13 (io), D1 AUDCK (io), D2 PD4/TIO1E (io), D3 PD9/PULS1 (io), D4 PE1/A1 (io), D6 PE9/A9 (io), D8 PE15/A15 (io), D9 PF3/A19 (io), D10 PF7/~{WRH} (io), D12 PF14/~{BACK}/~{SCS0} (io), D14 FWE (in), D15 PH0/D0 (io), D17 PH9/D9 (io), D18 PH8/D8 (io), D19 PH12/D12 (io), D20 PH15/D15 (io), E1 AUDATA3 (io), E2 PD2/TIO1C (io), E3 PD7/TIO1H (io), E4 PD8/PULS0 (io), E17 PH10/D10 (io), E18 PH11/D11 (io), E19 PH14/D14 (io), E20 NMI (in), F1 AUDATA1 (io), F2 ~{AUDSYNC} (io), F3 PD5/TIO1F (io), F4 PD6/TIO1G (io), F20 AN3 (in), G1 AUDATA0 (io), G2 AUDATA2 (io), G4 PD1/TIO1B (io), G18 AN1 (in), G19 AN2 (in), G20 AN5 (in), H2 ~{AUDRST} (in), H3 AUDMD (in), H17 AN0 (in), H18 AN4 (in), H19 AN7 (in), H20 AN8 (in), J17 AN6 (in), J18 AN10 (in), J19 AN9 (in), K1 PL13/~{IRQOUT}/~{SCS1} (io), K2 PL12/~{IRQ4}/~{SCS0} (io), K17 AN12 (in), K18 AN11 (in), K19 AVREF (power), L1 PL10/HTxD0/HTxD1/HTxD0 & HTxD1 (io), L2 PL11/HRxD0/HRxD1/HRxD0 & HRxD1 (io), L3 PL9/SCK4/~{IRQ5} (io), L4 PL8/SCK3 (io), L17 AN17 (in), L18 AN14 (in), L19 AN13 (in), L20 AN15 (in), M3 PL7/SCK2/SSCK1 (io), M4 PL4/~{ADTRG0} (io), M17 AN25 (in), M18 AN20 (in), M19 AN18 (in), M20 AN16 (in), N1 PL5/~{ADTRG1} (io), N2 PL6/ADEND (io), N3 PL3/TCLKB (io), N4 PL0/TI10 (io), N17 AN29 (in), N18 AN26 (in), N19 AN22 (in), N20 AN19 (in), P1 PL2/TIO11B/~{IRQ7} (io), P2 PL1/TIO11A/~{IRQ6} (io), P17 AN30 (in), P18 AN27 (in), P19 AN23 (in), P20 AN21 (in), R1 PK15/TO8P (io), R2 PK14/TO8O (io), R3 PK12/TO8M (io), R4 PK8/TO8I (io), R17 ~{WDTOVF} (out), R18 AN31 (in), R19 AN28 (in), R20 AN24 (in), T1 PK13/TO8N (io), T2 PK11/TO8L (io), T3 PK10/TO8K (io), T4 PK6/TO8G (io), T17 PA1/TI0B (io), T19 AVREF (power), U1 PK5/TO8F (io), U2 PK7/TO8H (io), U3 PK9/TO8J (io), U7 PJ8/TIO5C (io), U8 PJ3/TIO2D (io), U10 PC3/RxD2/SSI1 (io), U11 PC1/RxD1 (io), U12 PB15/PULS5/SCK2/SSCK1 (io), U13 PB9/RxD3/TO8F (io), U14 PB4/TO7A/TO8A (io), U15 PB0/TO6A (io), U17 PA9/TIO4B/ADTO0B (io), U18 PA0/TI0A (io), V1 PK4/TO8E (io), V2 PK3/TO8D (io), V3 PK1/TO8B (io), V4 PJ15/TI9F (io), V7 PJ7/TIO2H (io), V8 PJ2/TIO2C (io), V10 PC4/~{IRQ0} (io), V11 PC0/TxD1 (io), V12 PB11/RxD4/HRxD0/TO8H (io), V13 PB10/TxD4/HTxD0/TO8G (io), V14 PB5/TO7B/TO8B (io), V17 PA11/TIO4D/ADTO1B (io), V18 PA5/TIO3B (io), V19 PA3/TI0D (io), V20 PA2/TI0C (io), W1 PK0/TO8A (io), W2 PK2/TO8C (io), W3 PJ14/TI9E (io), W4 PJ13/TI9D (io), W5 PJ11/TI9B (io), W6 PJ6/TIO2G (io), W7 PJ4/TIO2E (io), W8 PG3/~{IRQ3}/~{ADTRG0} (io), W9 PG2/~{IRQ2}/ADEND (io), W10 PC2/TxD2/SSO1 (io), W12 PB12/TCLKA/~{UBCTRG} (io), W13 PB8/TxD3/TO8E (io), W14 PB6/TO7C/TO8C (io), W15 PB1/TO6B (io), W16 PA13/TIO5B (io), W17 PA12/TIO5A (io), W18 PA8/TIO4A/ADTO0A (io), W19 PA6/TIO3C (io), W20 PA4/TIO3A (io), Y2 PJ12/TI9C (io), Y3 PJ10/TI9A (io), Y4 PJ9/TIO5D (io), Y5 PJ5/TIO2F (io), Y6 PJ1/TIO2B (io), Y7 PJ0/TIO2A (io), Y8 PG1/~{IRQ1} (io), Y9 PG0/PULS7/HRxD0/HRxD1 (io), Y10 PB14/SCK1/TCLKB/TI10 (io), Y12 PB13/SCK0/SSCK0 (io), Y13 PB7/TO7D/TO8D (io), Y14 PB3/TO6D (io), Y15 PB2/TO6C (io), Y16 PA15/RxD0/SSI0 (io), Y17 PA14/TxD0/SSO0 (io), Y18 PA10/TIO4C/ADTO1A (io), Y19 PA7/TIO3D (io)
part B pins: H1 TDO (out), J1 ~{TRST} (in), J2 TCK (in), K3 TMS (in), K4 TDI (in)
part C pins: A17 PLLVCC (power), B9 VCL (power), B14 VCC (power), C6 PVCC1 (power), C11 PVCC1 (power), D5 VCC (power), D13 VCC (power), D16 PVCC1 (power), F17 VCC (power), F18 PVCC1 (power), H4 PVCC2 (power), J3 VCC (power), K20 AVCC (power), M2 VCL (power), P3 PVCC2 (power), T20 AVCC (power), U4 VCC (power), U6 VCC (power), U16 VCC (power), U19 PVCC2 (power), V5 PVCC2 (power), V9 PVCC2 (power), V15 PVCC2 (power), Y11 VCL (power)
part D pins: A9 VSS (power), A18 PLLVSS (power), B13 VSS (power), B15 VSS (power), D7 VSS (power), D11 VSS (power), F19 VSS (power), G3 VSS (power), G17 VSS (power), J4 VSS (power), J20 AVSS (power), M1 VSS (power), P4 VSS (power), T18 VSS (power), U5 VSS (power), U9 VSS (power), U20 AVSS (power), V6 VSS (power), V16 VSS (power), W11 VSS (power)
part E pins: A1 NC, A20 NC, J9 NC, J10 NC, J11 NC, J12 NC, K9 NC, K10 NC, K11 NC, K12 NC, L9 NC, L10 NC, L11 NC, L12 NC, M9 NC, M10 NC, M11 NC, M12 NC, Y1 NC, Y20 NC

## R4F70580SCK80FP
designator U?
32-Bit RISC Microcomputer, SH7050 Series, SH-2E core, 80MHz, 1M ROM, 48K RAM, 256-pin PQFP, -40 to 125°C; Published: 28-Aug-2009; DatasheetVersion: Rev.4.00, Mar-2009; PackageVersion: Sep-2005; PackageReference: PRQP0256KB-A; Publisher: Altium Limited; PackageDescription: 256-Pin Plastic Quad Flat Pack, 40 x 28 x 3.2 mm Body, 0.5 mm Pitch; Code_JEITA: P-QFP256-28x40-0.50; ComponentLink1Description: Manufacturer Link; ComponentLink1URL: http://www.renesas.com/fmwk.jsp?cnt=sh7059_root.jsp&fp=/products/mpumcu/superh_family/sh7050_series/sh7059_group/; ComponentLink2Description: Datasheet; ComponentLink2URL: http://documentation.renesas.com/eng/products/mpumcu/rej09b0177_7059_58fhm.pdf; ComponentLink3Description: Packaging Specification; ComponentLink3URL: http://sg.renesas.com/media/products/common_info/package/pdf/ic/code/prqp0256kb_a.pdf
footprint PRQP0256KB-A_N (Shrink QFP, 256-Leads, Body 40x28 mm, Pitch 0.5mm, IPC Medium Density)
footprint PRQP0256KB-A_L (Shrink QFP, 256-Leads, Body 40x28 mm, Pitch 0.5mm, IPC High Density)
footprint PRQP0256KB-A_M (Shrink QFP, 256-Leads, Body 40x28 mm, Pitch 0.5mm, IPC Low Density)
part A pins: 1 PD8/PULS0 (io), 2 PD9/PULS1 (io), 3 PD10/PULS2 (io), 4 PD11/PULS3 (io), 5 PD12/PULS4 (io), 6 PD13/PULS6/HTxD0/HTxD1 (io), 7 PE0/A0 (io), 8 PE1/A1 (io), 9 PE2/A2 (io), 10 PE3/A3 (io), 12 PE4/A4 (io), 14 PE5/A5 (io), 15 PE6/A6 (io), 16 PE7/A7 (io), 17 PE8/A8 (io), 18 PE9/A9 (io), 19 PE10/A10 (io), 21 PE11/A11 (io), 23 PE12/A12 (io), 24 PE13/A13 (io), 25 PE14/A14 (io), 26 PE15/A15 (io), 27 PF0/A16 (io), 28 PF1/A17 (io), 29 PF2/A18 (io), 31 PF3/A19 (io), 33 PF4/A20 (io), 34 PF5/A21/~{POD} (io), 35 PF6/~{WRL} (io), 36 PF7/~{WRH} (io), 37 PF8/~{WAIT} (io), 38 PF9/~{RD} (io), 40 PF10/~{CS0} (io), 42 PF11/~{CS1} (io), 43 PF12/~{CS2} (io), 44 PF13/~{CS3} (io), 45 PF14/~{BACK}/~{SCS0} (io), 46 PF15/~{BREQ}/~{SCS1} (io), 48 CK (out), 50 MD2 (in), 51 EXTAL (in), 53 XTAL (io), 55 MD1 (in), 56 FWE (in), 57 ~{HSTBY} (in), 58 ~{RES} (in), 59 MD0 (in), 61 PLLCAP (in), 63 PH0/D0 (io), 64 PH1/D1 (io), 65 PH2/D2 (io), 66 PH3/D3 (io), 67 PH4/D4 (io), 68 PH5/D5 (io), 69 PH6/D6 (io), 71 PH7/D7 (io), 73 PH8/D8 (io), 74 PH9/D9 (io), 76 PH10/D10 (io), 78 PH11/D11 (io), 79 PH12/D12 (io), 80 PH13/D13 (io), 81 PH14/D14 (io), 82 PH15/D15 (io), 84 NMI (in), 86 AN0 (in), 87 AN1 (in), 88 AN2 (in), 89 AN3 (in), 90 AN4 (in), 91 AN5 (in), 92 AN6 (in), 93 AN7 (in), 94 AN8 (in), 95 AN9 (in), 96 AN10 (in), 97 AN11 (in), 98 AN12 (in), 100 AVREF (power), 102 AN13 (in), 103 AN14 (in), 104 AN15 (in), 105 AN16 (in), 106 AN17 (in), 107 AN18 (in), 108 AN19 (in), 109 AN20 (in), 110 AN21 (in), 111 AN22 (in), 112 AN23 (in), 113 AN24 (in), 114 AN25 (in), 115 AN26 (in), 116 AN27 (in), 117 AN28 (in), 118 AN29 (in), 120 AVREF (power), 122 AN30 (in), 123 AN31 (in), 124 ~{WDTOVF} (out), 125 PA0/TI0A (io), 127 PA1/TI0B (io), 129 PA2/TI0C (io), 130 PA3/TI0D (io), 131 PA4/TIO3A (io), 132 PA5/TIO3B (io), 133 PA6/TIO3C (io), 134 PA7/TIO3D (io), 135 PA8/TIO4A/ADTO0A (io), 136 PA9/TIO4B/ADTO0B (io), 137 PA10/TIO4C/ADTO1A (io), 138 PA11/TIO4D/ADTO1B (io), 140 PA12/TIO5A (io), 142 PA13/TIO5B (io), 143 PA14/TxD0/SSO0 (io), 144 PA15/RxD0/SSI0 (io), 145 PB0/TO6A (io), 146 PB1/TO6B (io), 147 PB2/TO6C (io), 149 PB3/TO6D (io), 151 PB4/TO7A/TO8A (io), 152 PB5/TO7B/TO8B (io), 153 PB6/TO7C/TO8C (io), 154 PB7/TO7D/TO8D (io), 155 PB8/TxD3/TO8E (io), 156 PB9/RxD3/TO8F (io), 157 PB10/TxD4/HTxD0/TO8G (io), 158 PB11/RxD4/HRxD0/TO8H (io), 159 PB12/TCLKA/~{UBCTRG} (io), 160 PB13/SCK0/SSCK0 (io), 162 PB14/SCK1/TCLKB/TI10 (io), 164 PB15/PULS5/SCK2/SSCK1 (io), 165 PC0/TxD1 (io), 166 PC1/RxD1 (io), 167 PC2/TxD2/SSO1 (io), 168 PC3/RxD2/SSI1 (io), 169 PC4/~{IRQ0} (io), 170 PG0/PULS7/HRxD0/HRxD1 (io), 171 PG1/~{IRQ1} (io), 173 PG2/~{IRQ2}/ADEND (io), 175 PG3/~{IRQ3}/~{ADTRG0} (io), 176 PJ0/TIO2A (io), 177 PJ1/TIO2B (io), 178 PJ2/TIO2C (io), 179 PJ3/TIO2D (io), 180 PJ4/TIO2E (io), 181 PJ5/TIO2F (io), 182 PJ6/TIO2G (io), 183 PJ7/TIO2H (io), 184 PJ8/TIO5C (io), 186 PJ9/TIO5D (io), 188 PJ10/TI9A (io), 189 PJ11/TI9B (io), 190 PJ12/TI9C (io), 191 PJ13/TI9D (io), 192 PJ14/TI9E (io), 193 PJ15/TI9F (io), 195 PK0/TO8A (io), 197 PK1/TO8B (io), 198 PK2/TO8C (io), 199 PK3/TO8D (io), 200 PK4/TO8E (io), 201 PK5/TO8F (io), 202 PK6/TO8G (io), 204 PK7/TO8H (io), 206 PK8/TO8I (io), 207 PK9/TO8J (io), 208 PK10/TO8K (io), 209 PK11/TO8L (io), 210 PK12/TO8M (io), 211 PK13/TO8N (io), 213 PK14/TO8O (io), 215 PK15/TO8P (io), 216 PL0/TI10 (io), 217 PL1/TIO11A/~{IRQ6} (io), 218 PL2/TIO11B/~{IRQ7} (io), 219 PL3/TCLKB (io), 220 PL4/~{ADTRG0} (io), 221 PL5/~{ADTRG1} (io), 222 PL6/ADEND (io), 223 PL7/SCK2/SSCK1 (io), 224 PL8/SCK3 (io), 226 PL9/SCK4/~{IRQ5} (io), 228 PL10/HTxD0/HTxD1/HTxD0 & HTxD1 (io), 229 PL11/HRxD0/HRxD1/HRxD0 & HRxD1 (io), 230 PL12/~{IRQ4}/~{SCS0} (io), 231 PL13/~{IRQOUT}/~{SCS1} (io), 238 ~{AUDRST} (in), 240 AUDMD (in), 241 AUDATA0 (io), 242 AUDATA1 (io), 243 AUDATA2 (io), 244 AUDATA3 (io), 245 AUDCK (io), 246 ~{AUDSYNC} (io), 248 PD0/TIO1A (io), 250 PD1/TIO1B (io), 251 PD2/TIO1C (io), 252 PD3/TIO1D (io), 253 PD4/TIO1E (io), 254 PD5/TIO1F (io), 255 PD6/TIO1G (io), 256 PD7/TIO1H (io)
part B pins: 232 TMS, 233 ~{TRST}, 234 TDI, 235 TDO, 236 TCK
part C pins: 11 VCC (power), 20 PVCC1 (power), 30 VCL (power), 39 PVCC1 (power), 49 VCC (power), 52 VCC (power), 60 PLLVCC (power), 70 PVCC1 (power), 75 VCC (power), 83 PVCC1 (power), 101 AVCC (power), 119 AVCC (power), 128 PVCC2 (power), 139 VCC (power), 148 PVCC2 (power), 161 VCL (power), 172 PVCC2 (power), 187 VCC (power), 194 PVCC2 (power), 203 VCC (power), 212 PVCC2 (power), 225 VCL (power), 237 VCC (power), 247 PVCC2 (power)
part D pins: 13 VSS (power), 22 VSS (power), 32 VSS (power), 41 VSS (power), 47 VSS (power), 54 VSS (power), 62 PLLVSS (power), 72 VSS (power), 77 VSS (power), 85 VSS (power), 99 AVSS (power), 121 AVSS (power), 126 VSS (power), 141 VSS (power), 150 VSS (power), 163 VSS (power), 174 VSS (power), 185 VSS (power), 196 VSS (power), 205 VSS (power), 214 VSS (power), 227 VSS (power), 239 VSS (power), 249 VSS (power)

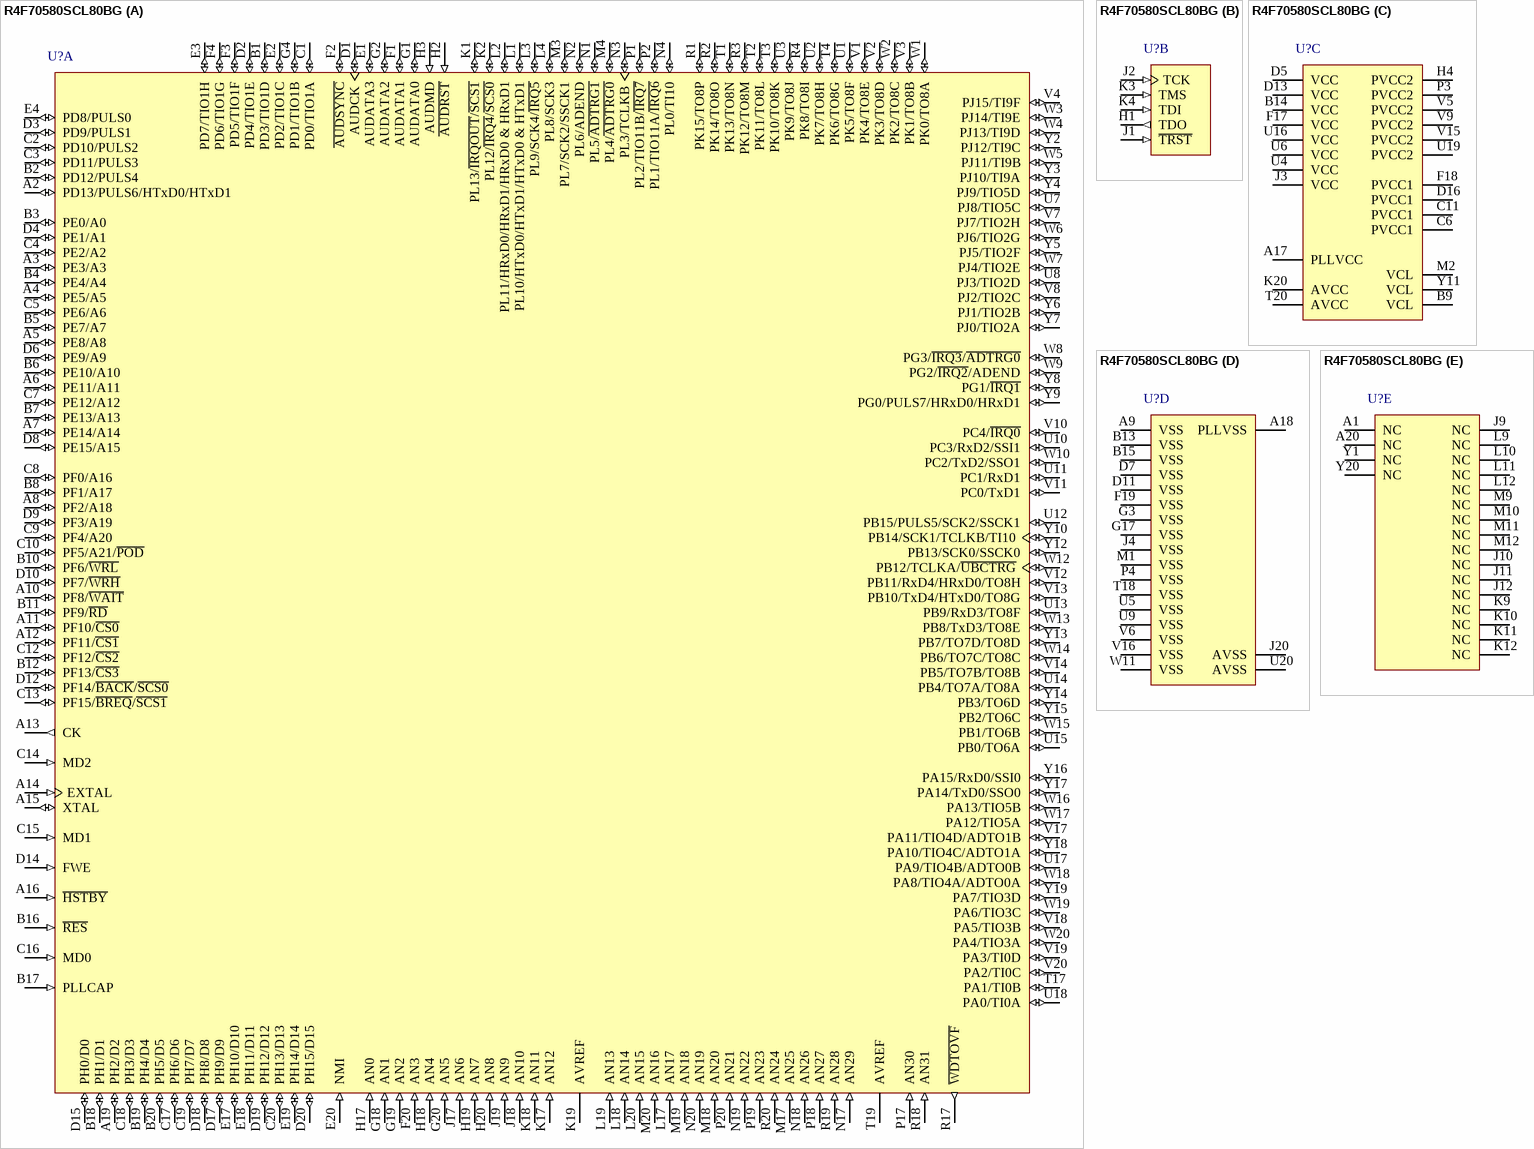
[diagram p116: symbol R4F70580SCL80BG]

## R4F70580SCL80BG
designator U?
32-Bit RISC Microcomputer, SH7050 Series, SH-2E core, 80MHz, 1M ROM, 48K RAM, 272-pin PBGA, -40 to 125°C; Published: 28-Aug-2009; DatasheetVersion: Rev.4.00, Mar-2009; PackageVersion: Aug-2007; PackageReference: PRBG0272FA-A; Publisher: Altium Limited; PackageDescription: 272-Ball Plastic Ball Grid Array, 21 x 21 mm Body, 1 mm Pitch; Code_JEITA: P-BGA272-21x21-1.00; ComponentLink1Description: Manufacturer Link; ComponentLink1URL: http://www.renesas.com/fmwk.jsp?cnt=sh7059_root.jsp&fp=/products/mpumcu/superh_family/sh7050_series/sh7059_group/; ComponentLink2Description: Datasheet; ComponentLink2URL: http://documentation.renesas.com/eng/products/mpumcu/rej09b0177_7059_58fhm.pdf; ComponentLink3Description: Packaging Specification; ComponentLink3URL: http://sg.renesas.com/media/products/common_info/package/pdf/ic/code/prbg0272fa_a.pdf
footprint PRBG0272FA-A (BGA, 272-Leads, Body 21x21mm, Pitch 1mm)
part A pins: A2 PD13/PULS6/HTxD0/HTxD1 (io), A3 PE3/A3 (io), A4 PE5/A5 (io), A5 PE8/A8 (io), A6 PE11/A11 (io), A7 PE14/A14 (io), A8 PF2/A18 (io), A10 PF8/~{WAIT} (io), A11 PF10/~{CS0} (io), A12 PF11/~{CS1} (io), A13 CK (out), A14 EXTAL (in), A15 XTAL (io), A16 ~{HSTBY} (in), A19 PH2/D2 (io), B1 PD3/TIO1D (io), B2 PD12/PULS4 (io), B3 PE0/A0 (io), B4 PE4/A4 (io), B5 PE7/A7 (io), B6 PE10/A10 (io), B7 PE13/A13 (io), B8 PF1/A17 (io), B10 PF6/~{WRL} (io), B11 PF9/~{RD} (io), B12 PF13/~{CS3} (io), B16 ~{RES} (in), B17 PLLCAP (in), B18 PH1/D1 (io), B19 PH4/D4 (io), B20 PH5/D5 (io), C1 PD0/TIO1A (io), C2 PD10/PULS2 (io), C3 PD11/PULS3 (io), C4 PE2/A2 (io), C5 PE6/A6 (io), C7 PE12/A12 (io), C8 PF0/A16 (io), C9 PF4/A20 (io), C10 PF5/A21/~{POD} (io), C12 PF12/~{CS2} (io), C13 PF15/~{BREQ}/~{SCS1} (io), C14 MD2 (in), C15 MD1 (in), C16 MD0 (in), C17 PH6/D6 (io), C18 PH3/D3 (io), C19 PH7/D7 (io), C20 PH13/D13 (io), D1 AUDCK (io), D2 PD4/TIO1E (io), D3 PD9/PULS1 (io), D4 PE1/A1 (io), D6 PE9/A9 (io), D8 PE15/A15 (io), D9 PF3/A19 (io), D10 PF7/~{WRH} (io), D12 PF14/~{BACK}/~{SCS0} (io), D14 FWE (in), D15 PH0/D0 (io), D17 PH9/D9 (io), D18 PH8/D8 (io), D19 PH12/D12 (io), D20 PH15/D15 (io), E1 AUDATA3 (io), E2 PD2/TIO1C (io), E3 PD7/TIO1H (io), E4 PD8/PULS0 (io), E17 PH10/D10 (io), E18 PH11/D11 (io), E19 PH14/D14 (io), E20 NMI (in), F1 AUDATA1 (io), F2 ~{AUDSYNC} (io), F3 PD5/TIO1F (io), F4 PD6/TIO1G (io), F20 AN3 (in), G1 AUDATA0 (io), G2 AUDATA2 (io), G4 PD1/TIO1B (io), G18 AN1 (in), G19 AN2 (in), G20 AN5 (in), H2 ~{AUDRST} (in), H3 AUDMD (in), H17 AN0 (in), H18 AN4 (in), H19 AN7 (in), H20 AN8 (in), J17 AN6 (in), J18 AN10 (in), J19 AN9 (in), K1 PL13/~{IRQOUT}/~{SCS1} (io), K2 PL12/~{IRQ4}/~{SCS0} (io), K17 AN12 (in), K18 AN11 (in), K19 AVREF (power), L1 PL10/HTxD0/HTxD1/HTxD0 & HTxD1 (io), L2 PL11/HRxD0/HRxD1/HRxD0 & HRxD1 (io), L3 PL9/SCK4/~{IRQ5} (io), L4 PL8/SCK3 (io), L17 AN17 (in), L18 AN14 (in), L19 AN13 (in), L20 AN15 (in), M3 PL7/SCK2/SSCK1 (io), M4 PL4/~{ADTRG0} (io), M17 AN25 (in), M18 AN20 (in), M19 AN18 (in), M20 AN16 (in), N1 PL5/~{ADTRG1} (io), N2 PL6/ADEND (io), N3 PL3/TCLKB (io), N4 PL0/TI10 (io), N17 AN29 (in), N18 AN26 (in), N19 AN22 (in), N20 AN19 (in), P1 PL2/TIO11B/~{IRQ7} (io), P2 PL1/TIO11A/~{IRQ6} (io), P17 AN30 (in), P18 AN27 (in), P19 AN23 (in), P20 AN21 (in), R1 PK15/TO8P (io), R2 PK14/TO8O (io), R3 PK12/TO8M (io), R4 PK8/TO8I (io), R17 ~{WDTOVF} (out), R18 AN31 (in), R19 AN28 (in), R20 AN24 (in), T1 PK13/TO8N (io), T2 PK11/TO8L (io), T3 PK10/TO8K (io), T4 PK6/TO8G (io), T17 PA1/TI0B (io), T19 AVREF (power), U1 PK5/TO8F (io), U2 PK7/TO8H (io), U3 PK9/TO8J (io), U7 PJ8/TIO5C (io), U8 PJ3/TIO2D (io), U10 PC3/RxD2/SSI1 (io), U11 PC1/RxD1 (io), U12 PB15/PULS5/SCK2/SSCK1 (io), U13 PB9/RxD3/TO8F (io), U14 PB4/TO7A/TO8A (io), U15 PB0/TO6A (io), U17 PA9/TIO4B/ADTO0B (io), U18 PA0/TI0A (io), V1 PK4/TO8E (io), V2 PK3/TO8D (io), V3 PK1/TO8B (io), V4 PJ15/TI9F (io), V7 PJ7/TIO2H (io), V8 PJ2/TIO2C (io), V10 PC4/~{IRQ0} (io), V11 PC0/TxD1 (io), V12 PB11/RxD4/HRxD0/TO8H (io), V13 PB10/TxD4/HTxD0/TO8G (io), V14 PB5/TO7B/TO8B (io), V17 PA11/TIO4D/ADTO1B (io), V18 PA5/TIO3B (io), V19 PA3/TI0D (io), V20 PA2/TI0C (io), W1 PK0/TO8A (io), W2 PK2/TO8C (io), W3 PJ14/TI9E (io), W4 PJ13/TI9D (io), W5 PJ11/TI9B (io), W6 PJ6/TIO2G (io), W7 PJ4/TIO2E (io), W8 PG3/~{IRQ3}/~{ADTRG0} (io), W9 PG2/~{IRQ2}/ADEND (io), W10 PC2/TxD2/SSO1 (io), W12 PB12/TCLKA/~{UBCTRG} (io), W13 PB8/TxD3/TO8E (io), W14 PB6/TO7C/TO8C (io), W15 PB1/TO6B (io), W16 PA13/TIO5B (io), W17 PA12/TIO5A (io), W18 PA8/TIO4A/ADTO0A (io), W19 PA6/TIO3C (io), W20 PA4/TIO3A (io), Y2 PJ12/TI9C (io), Y3 PJ10/TI9A (io), Y4 PJ9/TIO5D (io), Y5 PJ5/TIO2F (io), Y6 PJ1/TIO2B (io), Y7 PJ0/TIO2A (io), Y8 PG1/~{IRQ1} (io), Y9 PG0/PULS7/HRxD0/HRxD1 (io), Y10 PB14/SCK1/TCLKB/TI10 (io), Y12 PB13/SCK0/SSCK0 (io), Y13 PB7/TO7D/TO8D (io), Y14 PB3/TO6D (io), Y15 PB2/TO6C (io), Y16 PA15/RxD0/SSI0 (io), Y17 PA14/TxD0/SSO0 (io), Y18 PA10/TIO4C/ADTO1A (io), Y19 PA7/TIO3D (io)
part B pins: H1 TDO (out), J1 ~{TRST} (in), J2 TCK (in), K3 TMS (in), K4 TDI (in)
part C pins: A17 PLLVCC (power), B9 VCL (power), B14 VCC (power), C6 PVCC1 (power), C11 PVCC1 (power), D5 VCC (power), D13 VCC (power), D16 PVCC1 (power), F17 VCC (power), F18 PVCC1 (power), H4 PVCC2 (power), J3 VCC (power), K20 AVCC (power), M2 VCL (power), P3 PVCC2 (power), T20 AVCC (power), U4 VCC (power), U6 VCC (power), U16 VCC (power), U19 PVCC2 (power), V5 PVCC2 (power), V9 PVCC2 (power), V15 PVCC2 (power), Y11 VCL (power)
part D pins: A9 VSS (power), A18 PLLVSS (power), B13 VSS (power), B15 VSS (power), D7 VSS (power), D11 VSS (power), F19 VSS (power), G3 VSS (power), G17 VSS (power), J4 VSS (power), J20 AVSS (power), M1 VSS (power), P4 VSS (power), T18 VSS (power), U5 VSS (power), U9 VSS (power), U20 AVSS (power), V6 VSS (power), V16 VSS (power), W11 VSS (power)
part E pins: A1 NC, A20 NC, J9 NC, J10 NC, J11 NC, J12 NC, K9 NC, K10 NC, K11 NC, K12 NC, L9 NC, L10 NC, L11 NC, L12 NC, M9 NC, M10 NC, M11 NC, M12 NC, Y1 NC, Y20 NC

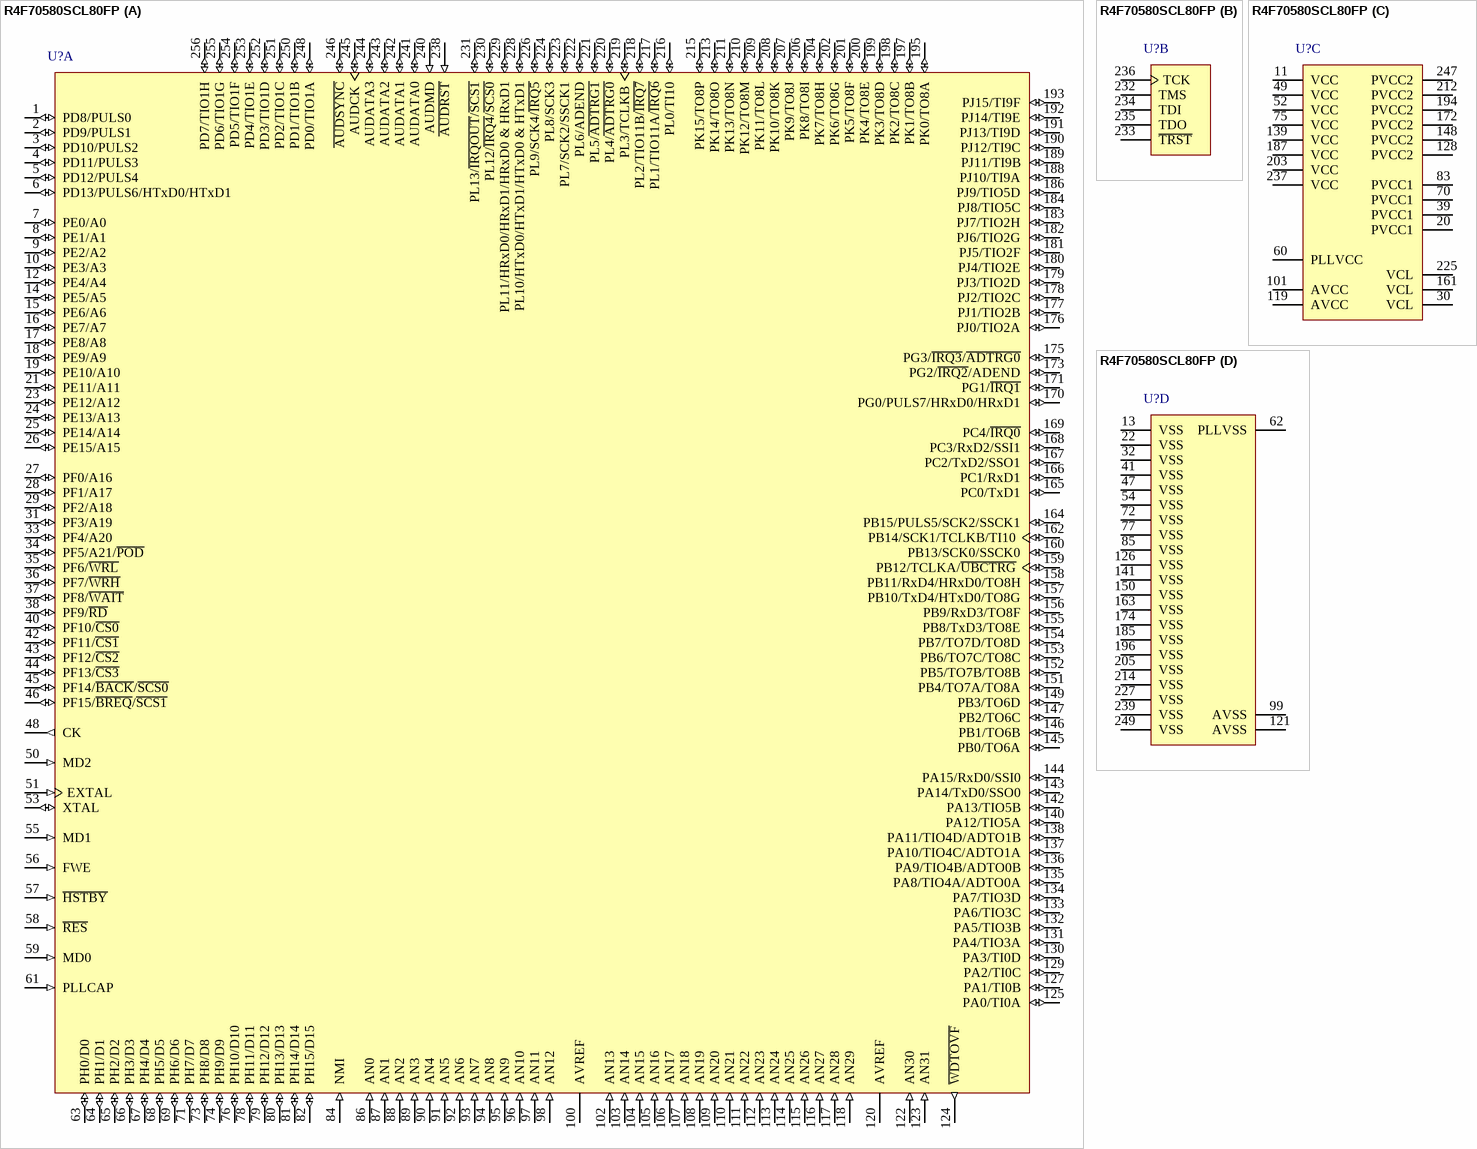
[diagram p117: symbol R4F70580SCL80FP]